# Altium schematic symbol library STMicroelectronics STM32 F1.SchLib: 243 symbols (part 10 of 18)
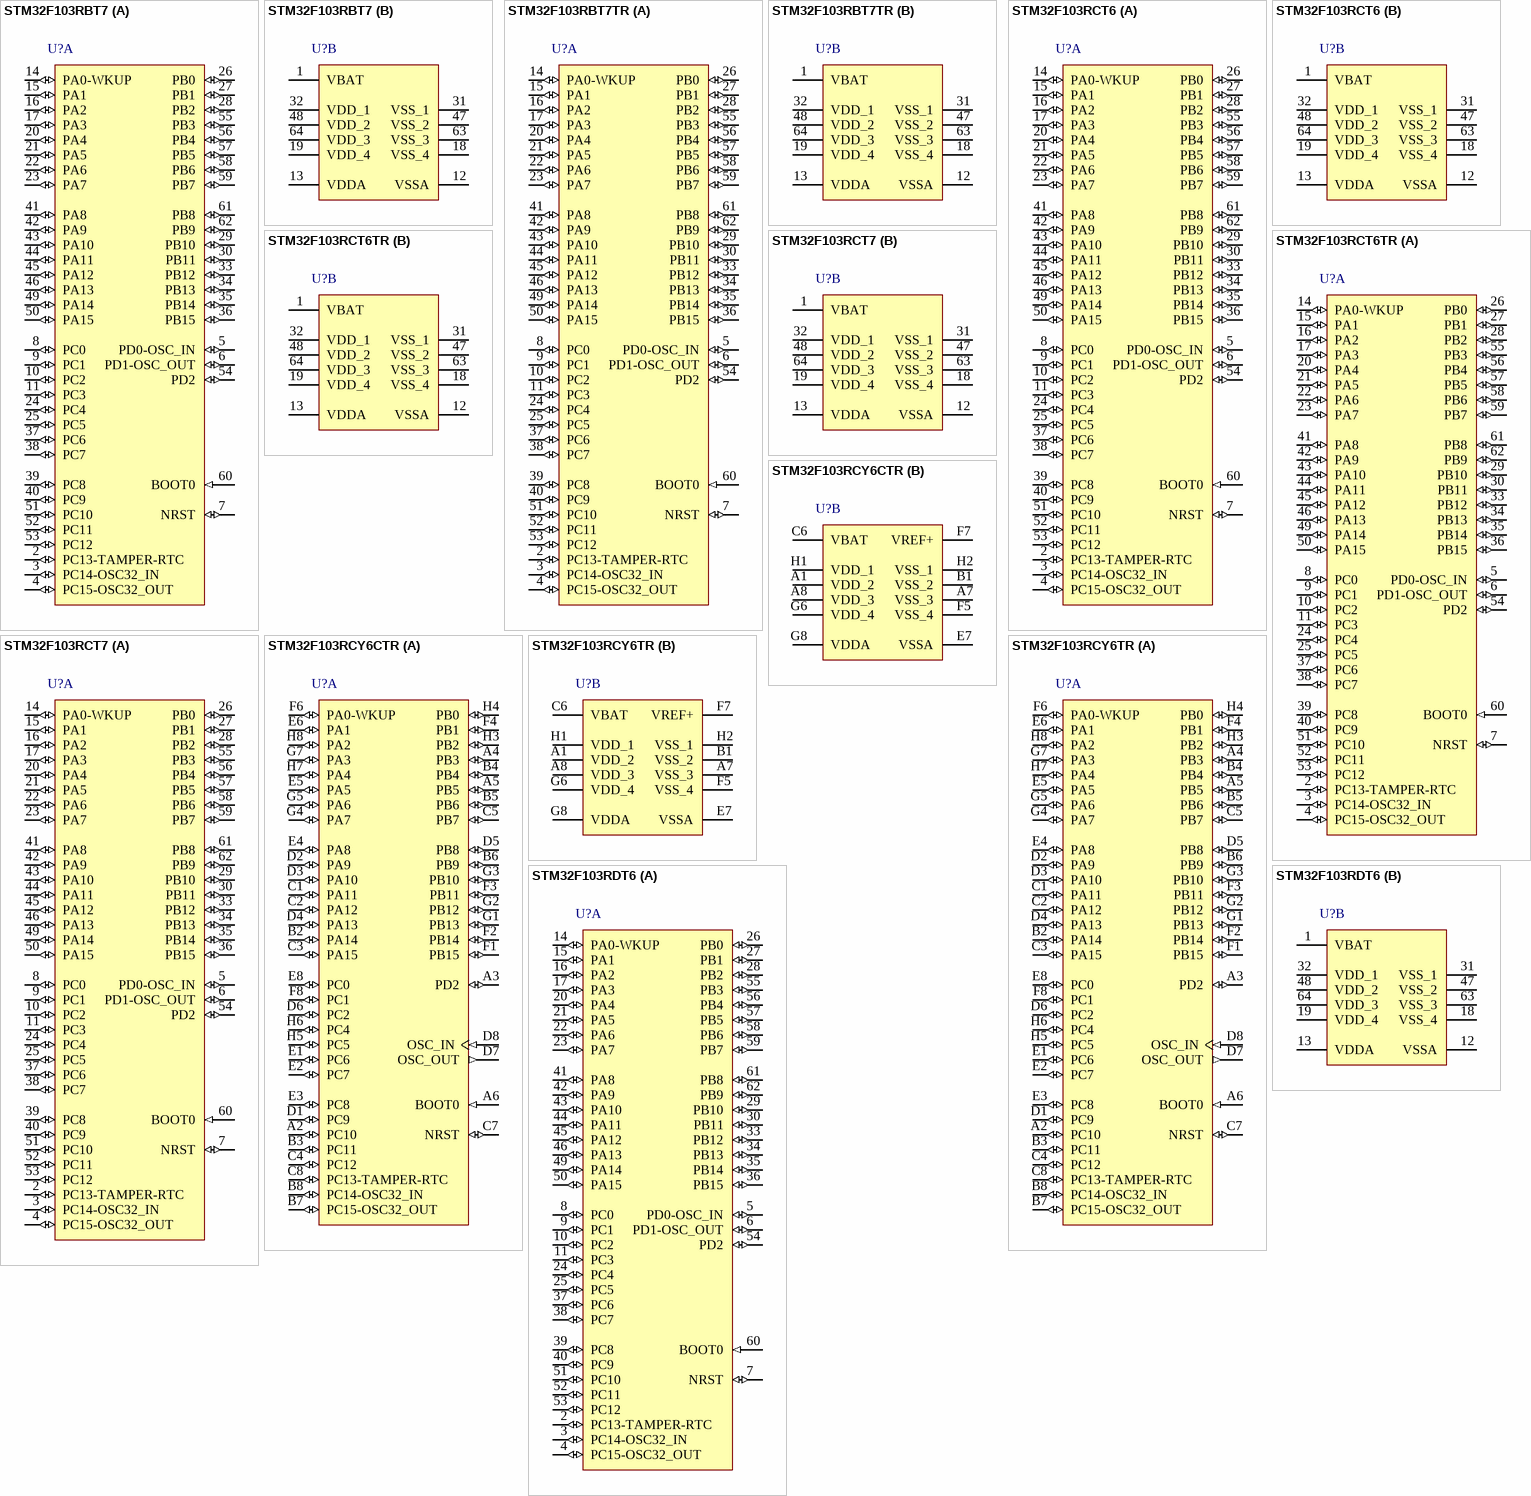
[diagram p51: symbols STM32F103RBT7 to STM32F103RDT6]

## STM32F103RBT7TR
designator U?
ARM Cortex-M3 32-bit MCU, 128 KB Flash, 20 KB Internal RAM, 51 I/Os, 64-pin LQFP, -40 to 105 degC, Tape and Reel
footprint STM-LQFP64_N (Thin QFP, 64-Leads, Body 10x10mm, Pitch 0.5mm, IPC Medium Density)
footprint STM-LQFP64_L (Thin QFP, 64-Leads, Body 10x10mm, Pitch 0.5mm, IPC High Density)
footprint STM-LQFP64_M (Thin QFP, 64-Leads, Body 10x10mm, Pitch 0.5mm, IPC Low Density)
footprint STM-LQFP64_V (Thin QFP, 64-Leads, Body 10x10mm, Pitch 0.5mm, ST Recommended)
part A pins: 2 PC13-TAMPER-RTC (io) "PC13-TAMPER-RTC/PC13/TAMPER-RTC", 3 PC14-OSC32_IN (io) "PC14-OSC32_IN/PC14/OSC32_IN", 4 PC15-OSC32_OUT (io) "PC15-OSC32_OUT/PC15/OSC32_OUT", 5 PD0-OSC_IN (io) "PD0/OSC_IN", 6 PD1-OSC_OUT (io) "PD1/OSC_OUT", 7 NRST (io), 8 PC0 (io) "PC0/ADC12_IN10", 9 PC1 (io) "PC1/ADC12_IN11", 10 PC2 (io) "PC2/ADC12_IN12", 11 PC3 (io) "PC3/ADC12_IN13", 14 PA0-WKUP (io) "PA0-WKUP/PA0/WKUP/USART2_CTS/ADC12_IN0/TIM2_CH1_ETR", 15 PA1 (io) "PA1/USART2_RTS/ADC12_IN1/TIM2_CH2", 16 PA2 (io) "PA2/USART2_TX/ADC12_IN2/TIM2_CH3", 17 PA3 (io) "PA3/USART2_RX/ADC12_IN3/TIM2_CH4", 20 PA4 (io) "PA4/SPI1_NSS/USART2_CK/ADC12_IN4", 21 PA5 (io) "PA5/SPI1_SCK/ADC12_IN5", 22 PA6 (io) "PA6/SPI1_MISO/ADC12_IN6/TIM3_CH1/TIM1_BKIN", 23 PA7 (io) "PA7/SPI1_MOSI/ADC12_IN7/TIM3_CH2/TIM1_CH1N", 24 PC4 (io) "PC4/ADC12_IN14", 25 PC5 (io) "PC5/ADC12_IN15", 26 PB0 (io) "PB0/ADC12_IN8/TIM3_CH3/TIM1_CH2N", 27 PB1 (io) "PB1/ADC12_IN9/TIM3_CH4/TIM1_CH3N", 28 PB2 (io) "PB2/BOOT1", 29 PB10 (io) "PB10/I2C2_SCL/USART3_TX/TIM2_CH3", 30 PB11 (io) "PB11/I2C2_SDA/USART3_RX/TIM2_CH4", 33 PB12 (io) "PB12/SPI2_NSS/I2C2_SMBAl/USART3_CK/TIM1_BKIN", 34 PB13 (io) "PB13/SPI2_SCK/USART3_CTS/TIM1_CH1N", 35 PB14 (io) "PB14/SPI2_MISO/USART3_RTS/TIM1_CH2N", 36 PB15 (io) "PB15/SPI2_MOSI/TIM1_CH3N", 37 PC6 (io) "PC6/TIM3_CH1", 38 PC7 (io) "PC7/TIM3_CH2", 39 PC8 (io) "PC8/TIM3_CH3", 40 PC9 (io) "PC9/TIM3_CH4", 41 PA8 (io) "PA8/USART1_CK/TIM1_CH1/MCO", 42 PA9 (io) "PA9/USART1_TX/TIM1_CH2", 43 PA10 (io) "PA10/USART1_RX/TIM1_CH3", 44 PA11 (io) "PA11/USART1_CTS/CANRX/USBDM/TIM1_CH4", 45 PA12 (io) "PA12/USART1_RTS/CANTX/USBDP/TIM1_ETR", 46 PA13 (io) "PA13/JTMS/SWDIO", 49 PA14 (io) "PA14/JTCK/SWCLK", 50 PA15 (io) "PA15/JTDI/TIM2_CH1_ETR/SPI1_NSS", 51 PC10 (io) "PC10/USART3_TX", 52 PC11 (io) "PC11/USART3_RX", 53 PC12 (io) "PC12/USART3_CK", 54 PD2 (io) "PD2/TIM3_ETR", 55 PB3 (io) "PB3/JTDO/TIM2_CH2/TRACESWO/SPI1_SCK", 56 PB4 (io) "PB4/NJTRST/TIM3_CH1/SPI1_MISO", 57 PB5 (io) "PB5/I2C1_SMBAI/TIM3_CH2/SPI1_MOSI", 58 PB6 (io) "PB6/I2C1_SCL/TIM4_CH1/USART1_TX", 59 PB7 (io) "PB7/I2C1_SDA/TIM4_CH2/USART1_RX", 60 BOOT0 (in), 61 PB8 (io) "PB8/TIM4_CH3/I2C1_SCL/CANRX", 62 PB9 (io) "PB9/TIM4_CH4/I2C1_SDA/CANTX"
part B pins: 1 VBAT (power), 12 VSSA (power), 13 VDDA (power), 18 VSS_4 (power), 19 VDD_4 (power), 31 VSS_1 (power), 32 VDD_1 (power), 47 VSS_2 (power), 48 VDD_2 (power), 63 VSS_3 (power), 64 VDD_3 (power)

## STM32F103RCT6
designator U?
ARM Cortex-M3 32-bit MCU, 256 KB Flash, 48 KB Internal RAM, 51 I/Os, 64-pin LQFP, -40 to 85 degC, Tray
footprint STM-LQFP64_N (Thin QFP, 64-Leads, Body 10x10mm, Pitch 0.5mm, IPC Medium Density)
footprint STM-LQFP64_L (Thin QFP, 64-Leads, Body 10x10mm, Pitch 0.5mm, IPC High Density)
footprint STM-LQFP64_M (Thin QFP, 64-Leads, Body 10x10mm, Pitch 0.5mm, IPC Low Density)
footprint STM-LQFP64_V (Thin QFP, 64-Leads, Body 10x10mm, Pitch 0.5mm, ST Recommended)
part A pins: 2 PC13-TAMPER-RTC (io) "PC13-TAMPER-RTC/PC13/TAMPER-RTC", 3 PC14-OSC32_IN (io) "PC14-OSC32_IN/PC14/OSC32_IN", 4 PC15-OSC32_OUT (io) "PC15-OSC32_OUT/PC15/OSC32_OUT", 5 PD0-OSC_IN (io) "PD0/OSC_IN/CAN_RX", 6 PD1-OSC_OUT (io) "PD1/OSC_OUT/CAN_TX", 7 NRST (io), 8 PC0 (io) "PC0/ADC123_IN10", 9 PC1 (io) "PC1/ADC123_IN11", 10 PC2 (io) "PC2/ADC123_IN12", 11 PC3 (io) "PC3/ADC123_IN13", 14 PA0-WKUP (io) "PA0-WKUP/PA0/WKUP/USART2_CTS/ADC123_IN0/TIM2_CH1_ETR/TIM5_CH1/TIM8_ETR", 15 PA1 (io) "PA1/USART2_RTS/ADC123_IN1/TIM5_CH2/TIM2_CH2", 16 PA2 (io) "PA2/USART2_TX/TIM5_CH3/ADC123_IN2/TIM2_CH3", 17 PA3 (io) "PA3/USART2_RX/TIM5_CH4/ADC123_IN3/TIM2_CH4", 20 PA4 (io) "PA4/SPI1_NSS/USART2_CK/DAC_OUT1/ADC12_IN4", 21 PA5 (io) "PA5/SPI1_SCK/DAC_OUT2/ADC12_IN5", 22 PA6 (io) "PA6/SPI1_MISO/TIM8_BKIN/ADC12_IN6/TIM3_CH1/TIM1_BKIN", 23 PA7 (io) "PA7/SPI1_MOSI/TIM8_CH1N/ADC12_IN7/TIM3_CH2/TIM1_CH1N", 24 PC4 (io) "PC4/ADC12_IN14", 25 PC5 (io) "PC5/ADC12_IN15", 26 PB0 (io) "PB0/ADC12_IN8/TIM3_CH3/TIM8_CH2N/TIM1_CH2N", 27 PB1 (io) "PB1/ADC12_IN9/TIM3_CH4/TIM8_CH3N/TIM1_CH3N", 28 PB2 (io) "PB2/BOOT1", 29 PB10 (io) "PB10/I2C2_SCL/USART3_TX/TIM2_CH3", 30 PB11 (io) "PB11/I2C2_SDA/USART3_RX/TIM2_CH4", 33 PB12 (io) "PB12/SPI2_NSS/I2S2_WS/I2C2_SMBA/USART3_CK/TIM1_BKIN", 34 PB13 (io) "PB13/SPI2_SCK/I2S2_CK/USART3_CTS/TIM1_CH1N", 35 PB14 (io) "PB14/SPI2_MISO/TIM1_CH2N/USART3_RTS", 36 PB15 (io) "PB15/SPI2_MOSI/I2S2_SD/TIM1_CH3N", 37 PC6 (io) "PC6/I2S2_MCK/TIM8_CH1/SDIO_D6/TIM3_CH1", 38 PC7 (io) "PC7/I2S3_MCK/TIM8_CH2/SDIO_D7/TIM3_CH2", 39 PC8 (io) "PC8/TIM8_CH3/SDIO_D0/TIM3_CH3", 40 PC9 (io) "PC9/TIM8_CH4/SDIO_D1/TIM3_CH4", 41 PA8 (io) "PA8/USART1_CK/TIM1_CH1/MCO", 42 PA9 (io) "PA9/USART1_TX/TIM1_CH2", 43 PA10 (io) "PA10/USART1_RX/TIM1_CH3", 44 PA11 (io) "PA11/USART1_CTS/USBDM/CAN_RX/TIM1_CH4", 45 PA12 (io) "PA12/USART1_RTS/USBDP/CAN_TX/TIM1_ETR", 46 PA13 (io) "PA13/JTMS-SWDIO", 49 PA14 (io) "PA14/JTCK-SWCLK", 50 PA15 (io) "PA15/JTDI/SPI3_NSS/I2S3_WS/TIM2_CH1_ETR/SPI1_NSS", 51 PC10 (io) "PC10/UART4_TX/SDIO_D2/USART3_TX", 52 PC11 (io) "PC11/UART4_RX/SDIO_D3/USART3_RX", 53 PC12 (io) "PC12/UART5_TX/SDIO_CK/USART3_CK", 54 PD2 (io) "PD2/TIM3_ETR/UART5_RX/SDIO_CMD", 55 PB3 (io) "PB3/JTDO/SPI3_SCK/I2S3_CK/TRACESWO/TIM2_CH2/SPI1_SCK", 56 PB4 (io) "PB4/NJTRST/SPI3_MISO/TIM3_CH1/SPI1_MISO", 57 PB5 (io) "PB5/I2C1_SMBA/SPI3_MOSI/I2S3_SD/TIM3_CH2/SPI1_MOSI", 58 PB6 (io) "PB6/I2C1_SCL/TIM4_CH1/USART1_TX", 59 PB7 (io) "PB7/I2C1_SDA/TIM4_CH2/USART1_RX", 60 BOOT0 (in), 61 PB8 (io) "PB8/TIM4_CH3/SDIO_D4/I2C1_SCL/CAN_RX", 62 PB9 (io) "PB9/TIM4_CH4/SDIO_D5/I2C1_SDA/CAN_TX"
part B pins: 1 VBAT (power), 12 VSSA (power), 13 VDDA (power), 18 VSS_4 (power), 19 VDD_4 (power), 31 VSS_1 (power), 32 VDD_1 (power), 47 VSS_2 (power), 48 VDD_2 (power), 63 VSS_3 (power), 64 VDD_3 (power)

## STM32F103RCT6TR
designator U?
ARM Cortex-M3 32-bit MCU, 256 KB Flash, 48 KB Internal RAM, 51 I/Os, 64-pin LQFP, -40 to 85 degC, Tape and Reel
footprint STM-LQFP64_N (Thin QFP, 64-Leads, Body 10x10mm, Pitch 0.5mm, IPC Medium Density)
footprint STM-LQFP64_L (Thin QFP, 64-Leads, Body 10x10mm, Pitch 0.5mm, IPC High Density)
footprint STM-LQFP64_M (Thin QFP, 64-Leads, Body 10x10mm, Pitch 0.5mm, IPC Low Density)
footprint STM-LQFP64_V (Thin QFP, 64-Leads, Body 10x10mm, Pitch 0.5mm, ST Recommended)
part A pins: 2 PC13-TAMPER-RTC (io) "PC13-TAMPER-RTC/PC13/TAMPER-RTC", 3 PC14-OSC32_IN (io) "PC14-OSC32_IN/PC14/OSC32_IN", 4 PC15-OSC32_OUT (io) "PC15-OSC32_OUT/PC15/OSC32_OUT", 5 PD0-OSC_IN (io) "PD0/OSC_IN/CAN_RX", 6 PD1-OSC_OUT (io) "PD1/OSC_OUT/CAN_TX", 7 NRST (io), 8 PC0 (io) "PC0/ADC123_IN10", 9 PC1 (io) "PC1/ADC123_IN11", 10 PC2 (io) "PC2/ADC123_IN12", 11 PC3 (io) "PC3/ADC123_IN13", 14 PA0-WKUP (io) "PA0-WKUP/PA0/WKUP/USART2_CTS/ADC123_IN0/TIM2_CH1_ETR/TIM5_CH1/TIM8_ETR", 15 PA1 (io) "PA1/USART2_RTS/ADC123_IN1/TIM5_CH2/TIM2_CH2", 16 PA2 (io) "PA2/USART2_TX/TIM5_CH3/ADC123_IN2/TIM2_CH3", 17 PA3 (io) "PA3/USART2_RX/TIM5_CH4/ADC123_IN3/TIM2_CH4", 20 PA4 (io) "PA4/SPI1_NSS/USART2_CK/DAC_OUT1/ADC12_IN4", 21 PA5 (io) "PA5/SPI1_SCK/DAC_OUT2/ADC12_IN5", 22 PA6 (io) "PA6/SPI1_MISO/TIM8_BKIN/ADC12_IN6/TIM3_CH1/TIM1_BKIN", 23 PA7 (io) "PA7/SPI1_MOSI/TIM8_CH1N/ADC12_IN7/TIM3_CH2/TIM1_CH1N", 24 PC4 (io) "PC4/ADC12_IN14", 25 PC5 (io) "PC5/ADC12_IN15", 26 PB0 (io) "PB0/ADC12_IN8/TIM3_CH3/TIM8_CH2N/TIM1_CH2N", 27 PB1 (io) "PB1/ADC12_IN9/TIM3_CH4/TIM8_CH3N/TIM1_CH3N", 28 PB2 (io) "PB2/BOOT1", 29 PB10 (io) "PB10/I2C2_SCL/USART3_TX/TIM2_CH3", 30 PB11 (io) "PB11/I2C2_SDA/USART3_RX/TIM2_CH4", 33 PB12 (io) "PB12/SPI2_NSS/I2S2_WS/I2C2_SMBA/USART3_CK/TIM1_BKIN", 34 PB13 (io) "PB13/SPI2_SCK/I2S2_CK/USART3_CTS/TIM1_CH1N", 35 PB14 (io) "PB14/SPI2_MISO/TIM1_CH2N/USART3_RTS", 36 PB15 (io) "PB15/SPI2_MOSI/I2S2_SD/TIM1_CH3N", 37 PC6 (io) "PC6/I2S2_MCK/TIM8_CH1/SDIO_D6/TIM3_CH1", 38 PC7 (io) "PC7/I2S3_MCK/TIM8_CH2/SDIO_D7/TIM3_CH2", 39 PC8 (io) "PC8/TIM8_CH3/SDIO_D0/TIM3_CH3", 40 PC9 (io) "PC9/TIM8_CH4/SDIO_D1/TIM3_CH4", 41 PA8 (io) "PA8/USART1_CK/TIM1_CH1/MCO", 42 PA9 (io) "PA9/USART1_TX/TIM1_CH2", 43 PA10 (io) "PA10/USART1_RX/TIM1_CH3", 44 PA11 (io) "PA11/USART1_CTS/USBDM/CAN_RX/TIM1_CH4", 45 PA12 (io) "PA12/USART1_RTS/USBDP/CAN_TX/TIM1_ETR", 46 PA13 (io) "PA13/JTMS-SWDIO", 49 PA14 (io) "PA14/JTCK-SWCLK", 50 PA15 (io) "PA15/JTDI/SPI3_NSS/I2S3_WS/TIM2_CH1_ETR/SPI1_NSS", 51 PC10 (io) "PC10/UART4_TX/SDIO_D2/USART3_TX", 52 PC11 (io) "PC11/UART4_RX/SDIO_D3/USART3_RX", 53 PC12 (io) "PC12/UART5_TX/SDIO_CK/USART3_CK", 54 PD2 (io) "PD2/TIM3_ETR/UART5_RX/SDIO_CMD", 55 PB3 (io) "PB3/JTDO/SPI3_SCK/I2S3_CK/TRACESWO/TIM2_CH2/SPI1_SCK", 56 PB4 (io) "PB4/NJTRST/SPI3_MISO/TIM3_CH1/SPI1_MISO", 57 PB5 (io) "PB5/I2C1_SMBA/SPI3_MOSI/I2S3_SD/TIM3_CH2/SPI1_MOSI", 58 PB6 (io) "PB6/I2C1_SCL/TIM4_CH1/USART1_TX", 59 PB7 (io) "PB7/I2C1_SDA/TIM4_CH2/USART1_RX", 60 BOOT0 (in), 61 PB8 (io) "PB8/TIM4_CH3/SDIO_D4/I2C1_SCL/CAN_RX", 62 PB9 (io) "PB9/TIM4_CH4/SDIO_D5/I2C1_SDA/CAN_TX"
part B pins: 1 VBAT (power), 12 VSSA (power), 13 VDDA (power), 18 VSS_4 (power), 19 VDD_4 (power), 31 VSS_1 (power), 32 VDD_1 (power), 47 VSS_2 (power), 48 VDD_2 (power), 63 VSS_3 (power), 64 VDD_3 (power)

## STM32F103RCT7
designator U?
ARM Cortex-M3 32-bit MCU, 256 KB Flash, 48 KB Internal RAM, 51 I/Os, 64-pin LQFP, -40 to 105 degC, Tray
footprint STM-LQFP64_N (Thin QFP, 64-Leads, Body 10x10mm, Pitch 0.5mm, IPC Medium Density)
footprint STM-LQFP64_L (Thin QFP, 64-Leads, Body 10x10mm, Pitch 0.5mm, IPC High Density)
footprint STM-LQFP64_M (Thin QFP, 64-Leads, Body 10x10mm, Pitch 0.5mm, IPC Low Density)
footprint STM-LQFP64_V (Thin QFP, 64-Leads, Body 10x10mm, Pitch 0.5mm, ST Recommended)
part A pins: 2 PC13-TAMPER-RTC (io) "PC13-TAMPER-RTC/PC13/TAMPER-RTC", 3 PC14-OSC32_IN (io) "PC14-OSC32_IN/PC14/OSC32_IN", 4 PC15-OSC32_OUT (io) "PC15-OSC32_OUT/PC15/OSC32_OUT", 5 PD0-OSC_IN (io) "PD0/OSC_IN/CAN_RX", 6 PD1-OSC_OUT (io) "PD1/OSC_OUT/CAN_TX", 7 NRST (io), 8 PC0 (io) "PC0/ADC123_IN10", 9 PC1 (io) "PC1/ADC123_IN11", 10 PC2 (io) "PC2/ADC123_IN12", 11 PC3 (io) "PC3/ADC123_IN13", 14 PA0-WKUP (io) "PA0-WKUP/PA0/WKUP/USART2_CTS/ADC123_IN0/TIM2_CH1_ETR/TIM5_CH1/TIM8_ETR", 15 PA1 (io) "PA1/USART2_RTS/ADC123_IN1/TIM5_CH2/TIM2_CH2", 16 PA2 (io) "PA2/USART2_TX/TIM5_CH3/ADC123_IN2/TIM2_CH3", 17 PA3 (io) "PA3/USART2_RX/TIM5_CH4/ADC123_IN3/TIM2_CH4", 20 PA4 (io) "PA4/SPI1_NSS/USART2_CK/DAC_OUT1/ADC12_IN4", 21 PA5 (io) "PA5/SPI1_SCK/DAC_OUT2/ADC12_IN5", 22 PA6 (io) "PA6/SPI1_MISO/TIM8_BKIN/ADC12_IN6/TIM3_CH1/TIM1_BKIN", 23 PA7 (io) "PA7/SPI1_MOSI/TIM8_CH1N/ADC12_IN7/TIM3_CH2/TIM1_CH1N", 24 PC4 (io) "PC4/ADC12_IN14", 25 PC5 (io) "PC5/ADC12_IN15", 26 PB0 (io) "PB0/ADC12_IN8/TIM3_CH3/TIM8_CH2N/TIM1_CH2N", 27 PB1 (io) "PB1/ADC12_IN9/TIM3_CH4/TIM8_CH3N/TIM1_CH3N", 28 PB2 (io) "PB2/BOOT1", 29 PB10 (io) "PB10/I2C2_SCL/USART3_TX/TIM2_CH3", 30 PB11 (io) "PB11/I2C2_SDA/USART3_RX/TIM2_CH4", 33 PB12 (io) "PB12/SPI2_NSS/I2S2_WS/I2C2_SMBA/USART3_CK/TIM1_BKIN", 34 PB13 (io) "PB13/SPI2_SCK/I2S2_CK/USART3_CTS/TIM1_CH1N", 35 PB14 (io) "PB14/SPI2_MISO/TIM1_CH2N/USART3_RTS", 36 PB15 (io) "PB15/SPI2_MOSI/I2S2_SD/TIM1_CH3N", 37 PC6 (io) "PC6/I2S2_MCK/TIM8_CH1/SDIO_D6/TIM3_CH1", 38 PC7 (io) "PC7/I2S3_MCK/TIM8_CH2/SDIO_D7/TIM3_CH2", 39 PC8 (io) "PC8/TIM8_CH3/SDIO_D0/TIM3_CH3", 40 PC9 (io) "PC9/TIM8_CH4/SDIO_D1/TIM3_CH4", 41 PA8 (io) "PA8/USART1_CK/TIM1_CH1/MCO", 42 PA9 (io) "PA9/USART1_TX/TIM1_CH2", 43 PA10 (io) "PA10/USART1_RX/TIM1_CH3", 44 PA11 (io) "PA11/USART1_CTS/USBDM/CAN_RX/TIM1_CH4", 45 PA12 (io) "PA12/USART1_RTS/USBDP/CAN_TX/TIM1_ETR", 46 PA13 (io) "PA13/JTMS-SWDIO", 49 PA14 (io) "PA14/JTCK-SWCLK", 50 PA15 (io) "PA15/JTDI/SPI3_NSS/I2S3_WS/TIM2_CH1_ETR/SPI1_NSS", 51 PC10 (io) "PC10/UART4_TX/SDIO_D2/USART3_TX", 52 PC11 (io) "PC11/UART4_RX/SDIO_D3/USART3_RX", 53 PC12 (io) "PC12/UART5_TX/SDIO_CK/USART3_CK", 54 PD2 (io) "PD2/TIM3_ETR/UART5_RX/SDIO_CMD", 55 PB3 (io) "PB3/JTDO/SPI3_SCK/I2S3_CK/TRACESWO/TIM2_CH2/SPI1_SCK", 56 PB4 (io) "PB4/NJTRST/SPI3_MISO/TIM3_CH1/SPI1_MISO", 57 PB5 (io) "PB5/I2C1_SMBA/SPI3_MOSI/I2S3_SD/TIM3_CH2/SPI1_MOSI", 58 PB6 (io) "PB6/I2C1_SCL/TIM4_CH1/USART1_TX", 59 PB7 (io) "PB7/I2C1_SDA/TIM4_CH2/USART1_RX", 60 BOOT0 (in), 61 PB8 (io) "PB8/TIM4_CH3/SDIO_D4/I2C1_SCL/CAN_RX", 62 PB9 (io) "PB9/TIM4_CH4/SDIO_D5/I2C1_SDA/CAN_TX"
part B pins: 1 VBAT (power), 12 VSSA (power), 13 VDDA (power), 18 VSS_4 (power), 19 VDD_4 (power), 31 VSS_1 (power), 32 VDD_1 (power), 47 VSS_2 (power), 48 VDD_2 (power), 63 VSS_3 (power), 64 VDD_3 (power)

## STM32F103RCY6CTR
designator U?
ARM Cortex-M3 32-bit MCU, 256 KB Flash, 48 KB Internal RAM, 51 I/Os, 64-pin WLCSP, -40 to 85 degC, Tape and Reel
footprint STM-WLCSP64 (BGA, 64-Balls, Body 4.47x4.4mm, Pitch 0.5mm)
part A pins: A2 PC10 (io) "PC10/UART4_TX/SDIO_D2/USART3_TX", A3 PD2 (io) "PD2/TIM3_ETR/UART5_RX/SDIO_CMD", A4 PB3 (io) "PB3/JTDO/SPI3_SCK/I2S3_CK/TRACESWO/TIM2_CH2/SPI1_SCK", A5 PB5 (io) "PB5/I2C1_SMBA/SPI3_MOSI/I2S3_SD/TIM3_CH2/SPI1_MOSI", A6 BOOT0 (in), B2 PA14 (io) "PA14/JTCK-SWCLK", B3 PC11 (io) "PC11/UART4_RX/SDIO_D3/USART3_RX", B4 PB4 (io) "PB4/NJTRST/SPI3_MISO/TIM3_CH1/SPI1_MISO", B5 PB6 (io) "PB6/I2C1_SCL/TIM4_CH1/USART1_TX", B6 PB9 (io) "PB9/TIM4_CH4/SDIO_D5/I2C1_SDA/CAN_TX", B7 PC15-OSC32_OUT (io) "PC15-OSC32_OUT/PC15/OSC32_OUT", B8 PC14-OSC32_IN (io) "PC14-OSC32_IN/PC14/OSC32_IN", C1 PA11 (io) "PA11/USART1_CTS/USBDM/CAN_RX/TIM1_CH4", C2 PA12 (io) "PA12/USART1_RTS/USBDP/CAN_TX/TIM1_ETR", C3 PA15 (io) "PA15/JTDI/SPI3_NSS/I2S3_WS/TIM2_CH1_ETR/SPI1_NSS", C4 PC12 (io) "PC12/UART5_TX/SDIO_CK/USART3_CK", C5 PB7 (io) "PB7/I2C1_SDA/FSMC_NADV/TIM4_CH2/USART1_RX", C7 NRST (io), C8 PC13-TAMPER-RTC (io) "PC13-TAMPER-RTC/PC13/TAMPER-RTC", D1 PC9 (io) "PC9/TIM8_CH4/SDIO_D1/TIM3_CH4", D2 PA9 (io) "PA9/USART1_TX/TIM1_CH2", D3 PA10 (io) "PA10/USART1_RX/TIM1_CH3", D4 PA13 (io) "PA13/JTMS-SWDIO", D5 PB8 (io) "PB8/TIM4_CH3/SDIO_D4/I2C1_SCL/CAN_RX", D6 PC2 (io) "PC2/ADC123_IN12", D7 OSC_OUT (out) "PD1/OSC_OUT/FSMC_D3/CAN_TX", D8 OSC_IN (in) "PD0/OSC_IN/FSMC_D2/CAN_RX", E1 PC6 (io) "PC6/I2S2_MCK/TIM8_CH1/SDIO_D6/TIM3_CH1", E2 PC7 (io) "PC7/I2S3_MCK/TIM8_CH2/SDIO_D7/TIM3_CH2", E3 PC8 (io) "PC8/TIM8_CH3/SDIO_D0/TIM3_CH3", E4 PA8 (io) "PA8/USART1_CK/TIM1_CH1/MCO", E5 PA5 (io) "PA5/SPI1_SCK/DAC_OUT2/ADC12_IN5", E6 PA1 (io) "PA1/USART2_RTS/ADC123_IN1/TIM5_CH2/TIM2_CH2", E8 PC0 (io) "PC0/ADC123_IN10", F1 PB15 (io) "PB15/SPI2_MOSI/I2S2_SD/TIM1_CH3N", F2 PB14 (io) "PB14/SPI2_MISO/TIM1_CH2N/USART3_RTS", F3 PB11 (io) "PB11/I2C2_SDA/USART3_RX/TIM2_CH4", F4 PB1 (io) "PB1/ADC12_IN9/TIM3_CH4/TIM8_CH3N/TIM1_CH3N", F6 PA0-WKUP (io) "PA0-WKUP/PA0/WKUP/USART2_CTS/ADC123_IN0/TIM2_CH1_ETR/TIM5_CH1/TIM8_ETR", F8 PC1 (io) "PC1/ADC123_IN11", G1 PB13 (io) "PB13/SPI2_SCK/I2S2_CK/USART3_CTS/TIM1_CH1N", G2 PB12 (io) "PB12/SPI2_NSS/I2S2_WS/I2C2_SMBA/USART3_CK/TIM1_BKIN", G3 PB10 (io) "PB10/I2C2_SCL/USART3_TX/TIM2_CH3", G4 PA7 (io) "PA7/SPI1_MOSI/TIM8_CH1N/ADC12_IN7/TIM3_CH2/TIM1_CH1N", G5 PA6 (io) "PA6/SPI1_MISO/TIM8_BKIN/ADC12_IN6/TIM3_CH1/TIM1_BKIN", G7 PA3 (io) "PA3/USART2_RX/TIM5_CH4/ADC123_IN3/TIM2_CH4", H3 PB2 (io) "PB2/BOOT1", H4 PB0 (io) "PB0/ADC12_IN8/TIM3_CH3/TIM8_CH2N/TIM1_CH2N", H5 PC5 (io) "PC5/ADC12_IN15", H6 PC4 (io) "PC4/ADC12_IN14", H7 PA4 (io) "PA4/SPI1_NSS/USART2_CK/DAC_OUT1/ADC12_IN4", H8 PA2 (io) "PA2/USART2_TX/TIM5_CH3/ADC123_IN2/TIM2_CH3"
part B pins: A1 VDD_2 (power), A7 VSS_3 (power), A8 VDD_3 (power), B1 VSS_2 (power), C6 VBAT (power), E7 VSSA (power), F5 VSS_4 (power), F7 VREF+ (power), G6 VDD_4 (power), G8 VDDA (power), H1 VDD_1 (power), H2 VSS_1 (power)

## STM32F103RCY6TR
designator U?
ARM Cortex-M3 32-bit MCU, 256 KB Flash, 48 KB Internal RAM, 51 I/Os, 64-pin WLCSP, -40 to 85 degC, Tape and Reel
footprint STM-WLCSP64 (BGA, 64-Balls, Body 4.47x4.4mm, Pitch 0.5mm)
part A pins: A2 PC10 (io) "PC10/UART4_TX/SDIO_D2/USART3_TX", A3 PD2 (io) "PD2/TIM3_ETR/UART5_RX/SDIO_CMD", A4 PB3 (io) "PB3/JTDO/SPI3_SCK/I2S3_CK/TRACESWO/TIM2_CH2/SPI1_SCK", A5 PB5 (io) "PB5/I2C1_SMBA/SPI3_MOSI/I2S3_SD/TIM3_CH2/SPI1_MOSI", A6 BOOT0 (in), B2 PA14 (io) "PA14/JTCK-SWCLK", B3 PC11 (io) "PC11/UART4_RX/SDIO_D3/USART3_RX", B4 PB4 (io) "PB4/NJTRST/SPI3_MISO/TIM3_CH1/SPI1_MISO", B5 PB6 (io) "PB6/I2C1_SCL/TIM4_CH1/USART1_TX", B6 PB9 (io) "PB9/TIM4_CH4/SDIO_D5/I2C1_SDA/CAN_TX", B7 PC15-OSC32_OUT (io) "PC15-OSC32_OUT/PC15/OSC32_OUT", B8 PC14-OSC32_IN (io) "PC14-OSC32_IN/PC14/OSC32_IN", C1 PA11 (io) "PA11/USART1_CTS/USBDM/CAN_RX/TIM1_CH4", C2 PA12 (io) "PA12/USART1_RTS/USBDP/CAN_TX/TIM1_ETR", C3 PA15 (io) "PA15/JTDI/SPI3_NSS/I2S3_WS/TIM2_CH1_ETR/SPI1_NSS", C4 PC12 (io) "PC12/UART5_TX/SDIO_CK/USART3_CK", C5 PB7 (io) "PB7/I2C1_SDA/FSMC_NADV/TIM4_CH2/USART1_RX", C7 NRST (io), C8 PC13-TAMPER-RTC (io) "PC13-TAMPER-RTC/PC13/TAMPER-RTC", D1 PC9 (io) "PC9/TIM8_CH4/SDIO_D1/TIM3_CH4", D2 PA9 (io) "PA9/USART1_TX/TIM1_CH2", D3 PA10 (io) "PA10/USART1_RX/TIM1_CH3", D4 PA13 (io) "PA13/JTMS-SWDIO", D5 PB8 (io) "PB8/TIM4_CH3/SDIO_D4/I2C1_SCL/CAN_RX", D6 PC2 (io) "PC2/ADC123_IN12", D7 OSC_OUT (out) "PD1/OSC_OUT/FSMC_D3/CAN_TX", D8 OSC_IN (in) "PD0/OSC_IN/FSMC_D2/CAN_RX", E1 PC6 (io) "PC6/I2S2_MCK/TIM8_CH1/SDIO_D6/TIM3_CH1", E2 PC7 (io) "PC7/I2S3_MCK/TIM8_CH2/SDIO_D7/TIM3_CH2", E3 PC8 (io) "PC8/TIM8_CH3/SDIO_D0/TIM3_CH3", E4 PA8 (io) "PA8/USART1_CK/TIM1_CH1/MCO", E5 PA5 (io) "PA5/SPI1_SCK/DAC_OUT2/ADC12_IN5", E6 PA1 (io) "PA1/USART2_RTS/ADC123_IN1/TIM5_CH2/TIM2_CH2", E8 PC0 (io) "PC0/ADC123_IN10", F1 PB15 (io) "PB15/SPI2_MOSI/I2S2_SD/TIM1_CH3N", F2 PB14 (io) "PB14/SPI2_MISO/TIM1_CH2N/USART3_RTS", F3 PB11 (io) "PB11/I2C2_SDA/USART3_RX/TIM2_CH4", F4 PB1 (io) "PB1/ADC12_IN9/TIM3_CH4/TIM8_CH3N/TIM1_CH3N", F6 PA0-WKUP (io) "PA0-WKUP/PA0/WKUP/USART2_CTS/ADC123_IN0/TIM2_CH1_ETR/TIM5_CH1/TIM8_ETR", F8 PC1 (io) "PC1/ADC123_IN11", G1 PB13 (io) "PB13/SPI2_SCK/I2S2_CK/USART3_CTS/TIM1_CH1N", G2 PB12 (io) "PB12/SPI2_NSS/I2S2_WS/I2C2_SMBA/USART3_CK/TIM1_BKIN", G3 PB10 (io) "PB10/I2C2_SCL/USART3_TX/TIM2_CH3", G4 PA7 (io) "PA7/SPI1_MOSI/TIM8_CH1N/ADC12_IN7/TIM3_CH2/TIM1_CH1N", G5 PA6 (io) "PA6/SPI1_MISO/TIM8_BKIN/ADC12_IN6/TIM3_CH1/TIM1_BKIN", G7 PA3 (io) "PA3/USART2_RX/TIM5_CH4/ADC123_IN3/TIM2_CH4", H3 PB2 (io) "PB2/BOOT1", H4 PB0 (io) "PB0/ADC12_IN8/TIM3_CH3/TIM8_CH2N/TIM1_CH2N", H5 PC5 (io) "PC5/ADC12_IN15", H6 PC4 (io) "PC4/ADC12_IN14", H7 PA4 (io) "PA4/SPI1_NSS/USART2_CK/DAC_OUT1/ADC12_IN4", H8 PA2 (io) "PA2/USART2_TX/TIM5_CH3/ADC123_IN2/TIM2_CH3"
part B pins: A1 VDD_2 (power), A7 VSS_3 (power), A8 VDD_3 (power), B1 VSS_2 (power), C6 VBAT (power), E7 VSSA (power), F5 VSS_4 (power), F7 VREF+ (power), G6 VDD_4 (power), G8 VDDA (power), H1 VDD_1 (power), H2 VSS_1 (power)

## STM32F103RDT6
designator U?
ARM Cortex-M3 32-bit MCU, 384 KB Flash, 64 KB Internal RAM, 51 I/Os, 64-pin LQFP, -40 to 85 degC, Tray
footprint STM-LQFP64_N (Thin QFP, 64-Leads, Body 10x10mm, Pitch 0.5mm, IPC Medium Density)
footprint STM-LQFP64_L (Thin QFP, 64-Leads, Body 10x10mm, Pitch 0.5mm, IPC High Density)
footprint STM-LQFP64_M (Thin QFP, 64-Leads, Body 10x10mm, Pitch 0.5mm, IPC Low Density)
footprint STM-LQFP64_V (Thin QFP, 64-Leads, Body 10x10mm, Pitch 0.5mm, ST Recommended)
part A pins: 2 PC13-TAMPER-RTC (io) "PC13-TAMPER-RTC/PC13/TAMPER-RTC", 3 PC14-OSC32_IN (io) "PC14-OSC32_IN/PC14/OSC32_IN", 4 PC15-OSC32_OUT (io) "PC15-OSC32_OUT/PC15/OSC32_OUT", 5 PD0-OSC_IN (io) "PD0/OSC_IN/CAN_RX", 6 PD1-OSC_OUT (io) "PD1/OSC_OUT/CAN_TX", 7 NRST (io), 8 PC0 (io) "PC0/ADC123_IN10", 9 PC1 (io) "PC1/ADC123_IN11", 10 PC2 (io) "PC2/ADC123_IN12", 11 PC3 (io) "PC3/ADC123_IN13", 14 PA0-WKUP (io) "PA0-WKUP/PA0/WKUP/USART2_CTS/ADC123_IN0/TIM2_CH1_ETR/TIM5_CH1/TIM8_ETR", 15 PA1 (io) "PA1/USART2_RTS/ADC123_IN1/TIM5_CH2/TIM2_CH2", 16 PA2 (io) "PA2/USART2_TX/TIM5_CH3/ADC123_IN2/TIM2_CH3", 17 PA3 (io) "PA3/USART2_RX/TIM5_CH4/ADC123_IN3/TIM2_CH4", 20 PA4 (io) "PA4/SPI1_NSS/USART2_CK/DAC_OUT1/ADC12_IN4", 21 PA5 (io) "PA5/SPI1_SCK/DAC_OUT2/ADC12_IN5", 22 PA6 (io) "PA6/SPI1_MISO/TIM8_BKIN/ADC12_IN6/TIM3_CH1/TIM1_BKIN", 23 PA7 (io) "PA7/SPI1_MOSI/TIM8_CH1N/ADC12_IN7/TIM3_CH2/TIM1_CH1N", 24 PC4 (io) "PC4/ADC12_IN14", 25 PC5 (io) "PC5/ADC12_IN15", 26 PB0 (io) "PB0/ADC12_IN8/TIM3_CH3/TIM8_CH2N/TIM1_CH2N", 27 PB1 (io) "PB1/ADC12_IN9/TIM3_CH4/TIM8_CH3N/TIM1_CH3N", 28 PB2 (io) "PB2/BOOT1", 29 PB10 (io) "PB10/I2C2_SCL/USART3_TX/TIM2_CH3", 30 PB11 (io) "PB11/I2C2_SDA/USART3_RX/TIM2_CH4", 33 PB12 (io) "PB12/SPI2_NSS/I2S2_WS/I2C2_SMBA/USART3_CK/TIM1_BKIN", 34 PB13 (io) "PB13/SPI2_SCK/I2S2_CK/USART3_CTS/TIM1_CH1N", 35 PB14 (io) "PB14/SPI2_MISO/TIM1_CH2N/USART3_RTS", 36 PB15 (io) "PB15/SPI2_MOSI/I2S2_SD/TIM1_CH3N", 37 PC6 (io) "PC6/I2S2_MCK/TIM8_CH1/SDIO_D6/TIM3_CH1", 38 PC7 (io) "PC7/I2S3_MCK/TIM8_CH2/SDIO_D7/TIM3_CH2", 39 PC8 (io) "PC8/TIM8_CH3/SDIO_D0/TIM3_CH3", 40 PC9 (io) "PC9/TIM8_CH4/SDIO_D1/TIM3_CH4", 41 PA8 (io) "PA8/USART1_CK/TIM1_CH1/MCO", 42 PA9 (io) "PA9/USART1_TX/TIM1_CH2", 43 PA10 (io) "PA10/USART1_RX/TIM1_CH3", 44 PA11 (io) "PA11/USART1_CTS/USBDM/CAN_RX/TIM1_CH4", 45 PA12 (io) "PA12/USART1_RTS/USBDP/CAN_TX/TIM1_ETR", 46 PA13 (io) "PA13/JTMS-SWDIO", 49 PA14 (io) "PA14/JTCK-SWCLK", 50 PA15 (io) "PA15/JTDI/SPI3_NSS/I2S3_WS/TIM2_CH1_ETR/SPI1_NSS", 51 PC10 (io) "PC10/UART4_TX/SDIO_D2/USART3_TX", 52 PC11 (io) "PC11/UART4_RX/SDIO_D3/USART3_RX", 53 PC12 (io) "PC12/UART5_TX/SDIO_CK/USART3_CK", 54 PD2 (io) "PD2/TIM3_ETR/UART5_RX/SDIO_CMD", 55 PB3 (io) "PB3/JTDO/SPI3_SCK/I2S3_CK/TRACESWO/TIM2_CH2/SPI1_SCK", 56 PB4 (io) "PB4/NJTRST/SPI3_MISO/TIM3_CH1/SPI1_MISO", 57 PB5 (io) "PB5/I2C1_SMBA/SPI3_MOSI/I2S3_SD/TIM3_CH2/SPI1_MOSI", 58 PB6 (io) "PB6/I2C1_SCL/TIM4_CH1/USART1_TX", 59 PB7 (io) "PB7/I2C1_SDA/TIM4_CH2/USART1_RX", 60 BOOT0 (in), 61 PB8 (io) "PB8/TIM4_CH3/SDIO_D4/I2C1_SCL/CAN_RX", 62 PB9 (io) "PB9/TIM4_CH4/SDIO_D5/I2C1_SDA/CAN_TX"
part B pins: 1 VBAT (power), 12 VSSA (power), 13 VDDA (power), 18 VSS_4 (power), 19 VDD_4 (power), 31 VSS_1 (power), 32 VDD_1 (power), 47 VSS_2 (power), 48 VDD_2 (power), 63 VSS_3 (power), 64 VDD_3 (power)

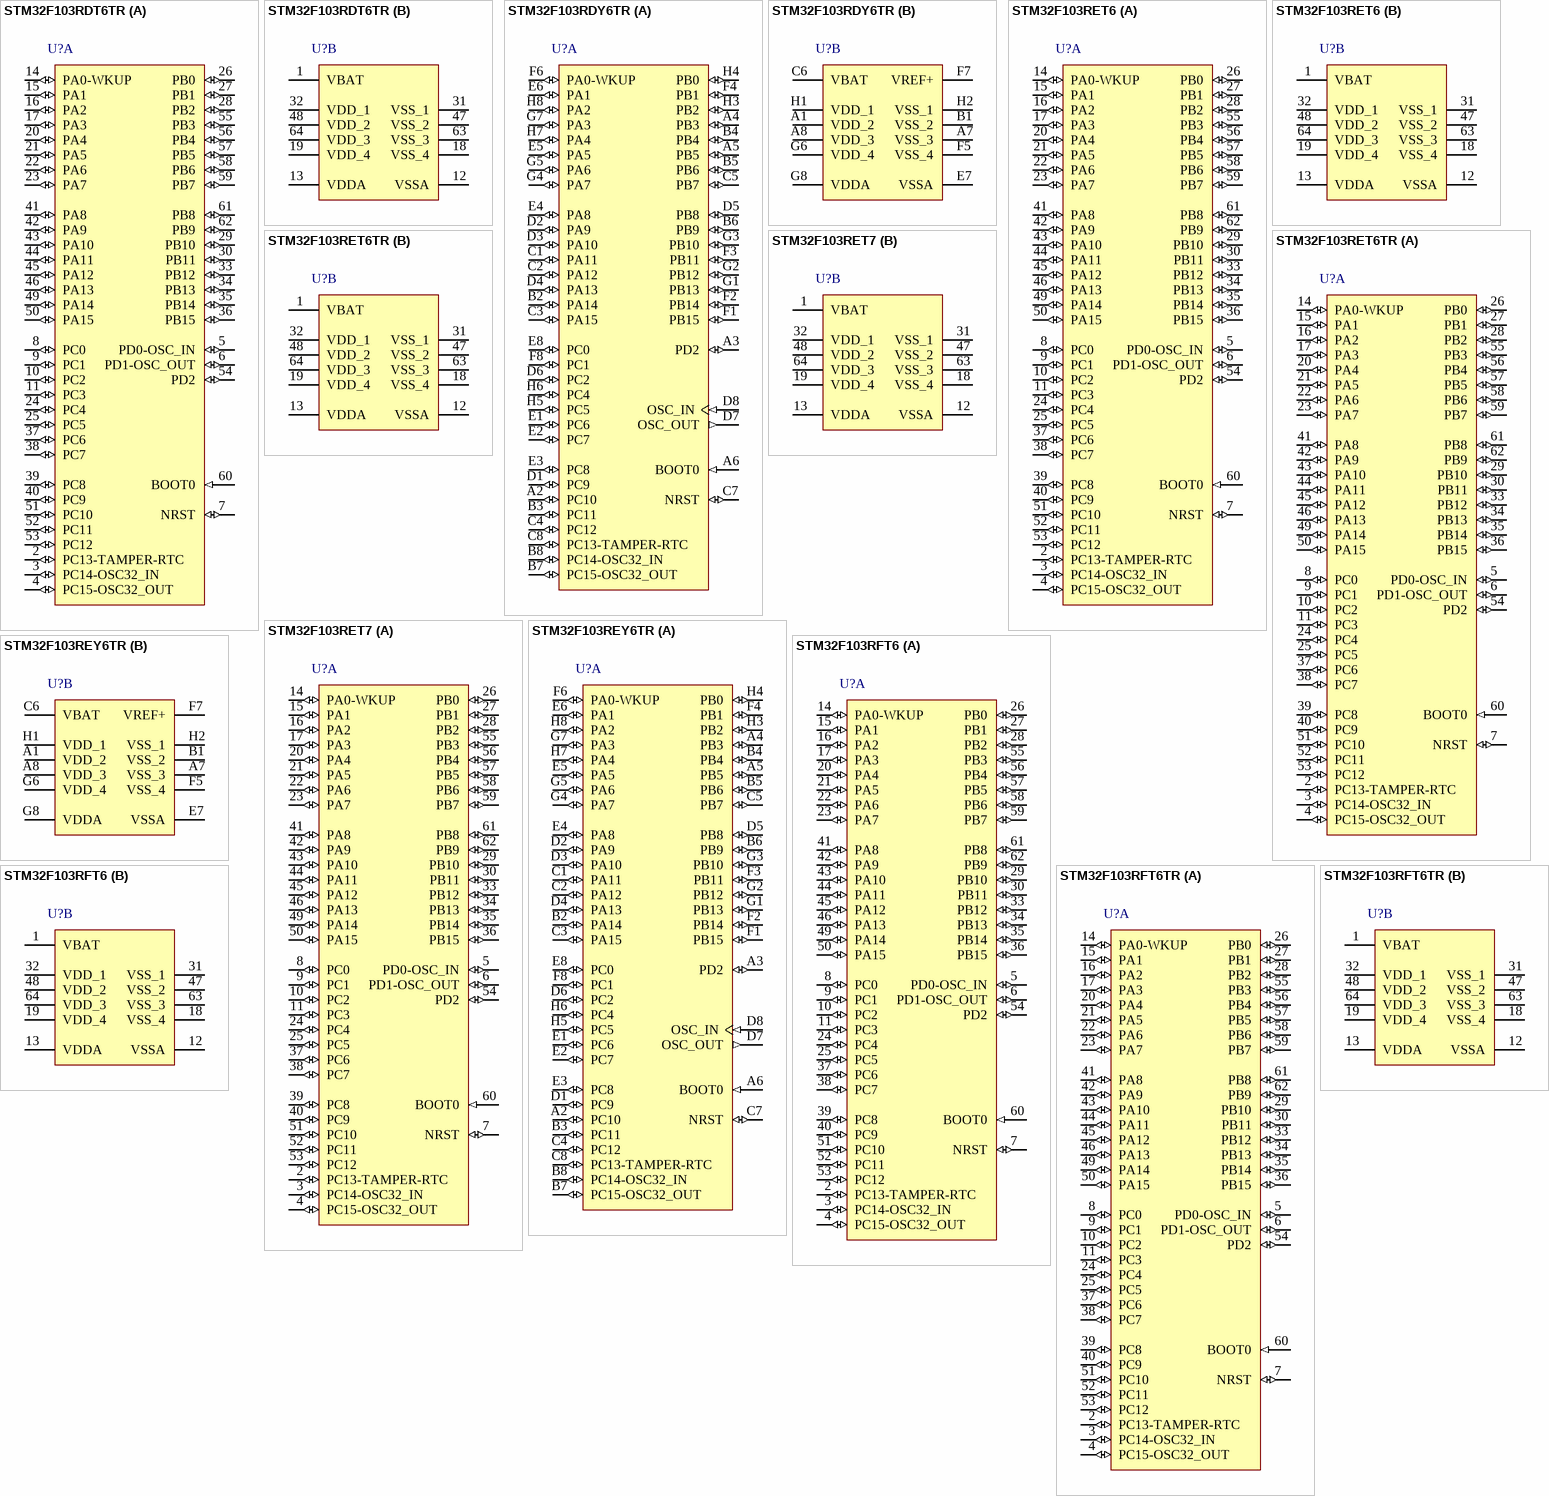
[diagram p22: symbols STM32F103RDT6TR to STM32F103RFT6TR]

## STM32F103RDT6TR
designator U?
ARM Cortex-M3 32-bit MCU, 384 KB Flash, 64 KB Internal RAM, 51 I/Os, 64-pin LQFP, -40 to 85 degC, Tape and Reel
footprint STM-LQFP64_N (Thin QFP, 64-Leads, Body 10x10mm, Pitch 0.5mm, IPC Medium Density)
footprint STM-LQFP64_L (Thin QFP, 64-Leads, Body 10x10mm, Pitch 0.5mm, IPC High Density)
footprint STM-LQFP64_M (Thin QFP, 64-Leads, Body 10x10mm, Pitch 0.5mm, IPC Low Density)
footprint STM-LQFP64_V (Thin QFP, 64-Leads, Body 10x10mm, Pitch 0.5mm, ST Recommended)
part A pins: 2 PC13-TAMPER-RTC (io) "PC13-TAMPER-RTC/PC13/TAMPER-RTC", 3 PC14-OSC32_IN (io) "PC14-OSC32_IN/PC14/OSC32_IN", 4 PC15-OSC32_OUT (io) "PC15-OSC32_OUT/PC15/OSC32_OUT", 5 PD0-OSC_IN (io) "PD0/OSC_IN/CAN_RX", 6 PD1-OSC_OUT (io) "PD1/OSC_OUT/CAN_TX", 7 NRST (io), 8 PC0 (io) "PC0/ADC123_IN10", 9 PC1 (io) "PC1/ADC123_IN11", 10 PC2 (io) "PC2/ADC123_IN12", 11 PC3 (io) "PC3/ADC123_IN13", 14 PA0-WKUP (io) "PA0-WKUP/PA0/WKUP/USART2_CTS/ADC123_IN0/TIM2_CH1_ETR/TIM5_CH1/TIM8_ETR", 15 PA1 (io) "PA1/USART2_RTS/ADC123_IN1/TIM5_CH2/TIM2_CH2", 16 PA2 (io) "PA2/USART2_TX/TIM5_CH3/ADC123_IN2/TIM2_CH3", 17 PA3 (io) "PA3/USART2_RX/TIM5_CH4/ADC123_IN3/TIM2_CH4", 20 PA4 (io) "PA4/SPI1_NSS/USART2_CK/DAC_OUT1/ADC12_IN4", 21 PA5 (io) "PA5/SPI1_SCK/DAC_OUT2/ADC12_IN5", 22 PA6 (io) "PA6/SPI1_MISO/TIM8_BKIN/ADC12_IN6/TIM3_CH1/TIM1_BKIN", 23 PA7 (io) "PA7/SPI1_MOSI/TIM8_CH1N/ADC12_IN7/TIM3_CH2/TIM1_CH1N", 24 PC4 (io) "PC4/ADC12_IN14", 25 PC5 (io) "PC5/ADC12_IN15", 26 PB0 (io) "PB0/ADC12_IN8/TIM3_CH3/TIM8_CH2N/TIM1_CH2N", 27 PB1 (io) "PB1/ADC12_IN9/TIM3_CH4/TIM8_CH3N/TIM1_CH3N", 28 PB2 (io) "PB2/BOOT1", 29 PB10 (io) "PB10/I2C2_SCL/USART3_TX/TIM2_CH3", 30 PB11 (io) "PB11/I2C2_SDA/USART3_RX/TIM2_CH4", 33 PB12 (io) "PB12/SPI2_NSS/I2S2_WS/I2C2_SMBA/USART3_CK/TIM1_BKIN", 34 PB13 (io) "PB13/SPI2_SCK/I2S2_CK/USART3_CTS/TIM1_CH1N", 35 PB14 (io) "PB14/SPI2_MISO/TIM1_CH2N/USART3_RTS", 36 PB15 (io) "PB15/SPI2_MOSI/I2S2_SD/TIM1_CH3N", 37 PC6 (io) "PC6/I2S2_MCK/TIM8_CH1/SDIO_D6/TIM3_CH1", 38 PC7 (io) "PC7/I2S3_MCK/TIM8_CH2/SDIO_D7/TIM3_CH2", 39 PC8 (io) "PC8/TIM8_CH3/SDIO_D0/TIM3_CH3", 40 PC9 (io) "PC9/TIM8_CH4/SDIO_D1/TIM3_CH4", 41 PA8 (io) "PA8/USART1_CK/TIM1_CH1/MCO", 42 PA9 (io) "PA9/USART1_TX/TIM1_CH2", 43 PA10 (io) "PA10/USART1_RX/TIM1_CH3", 44 PA11 (io) "PA11/USART1_CTS/USBDM/CAN_RX/TIM1_CH4", 45 PA12 (io) "PA12/USART1_RTS/USBDP/CAN_TX/TIM1_ETR", 46 PA13 (io) "PA13/JTMS-SWDIO", 49 PA14 (io) "PA14/JTCK-SWCLK", 50 PA15 (io) "PA15/JTDI/SPI3_NSS/I2S3_WS/TIM2_CH1_ETR/SPI1_NSS", 51 PC10 (io) "PC10/UART4_TX/SDIO_D2/USART3_TX", 52 PC11 (io) "PC11/UART4_RX/SDIO_D3/USART3_RX", 53 PC12 (io) "PC12/UART5_TX/SDIO_CK/USART3_CK", 54 PD2 (io) "PD2/TIM3_ETR/UART5_RX/SDIO_CMD", 55 PB3 (io) "PB3/JTDO/SPI3_SCK/I2S3_CK/TRACESWO/TIM2_CH2/SPI1_SCK", 56 PB4 (io) "PB4/NJTRST/SPI3_MISO/TIM3_CH1/SPI1_MISO", 57 PB5 (io) "PB5/I2C1_SMBA/SPI3_MOSI/I2S3_SD/TIM3_CH2/SPI1_MOSI", 58 PB6 (io) "PB6/I2C1_SCL/TIM4_CH1/USART1_TX", 59 PB7 (io) "PB7/I2C1_SDA/TIM4_CH2/USART1_RX", 60 BOOT0 (in), 61 PB8 (io) "PB8/TIM4_CH3/SDIO_D4/I2C1_SCL/CAN_RX", 62 PB9 (io) "PB9/TIM4_CH4/SDIO_D5/I2C1_SDA/CAN_TX"
part B pins: 1 VBAT (power), 12 VSSA (power), 13 VDDA (power), 18 VSS_4 (power), 19 VDD_4 (power), 31 VSS_1 (power), 32 VDD_1 (power), 47 VSS_2 (power), 48 VDD_2 (power), 63 VSS_3 (power), 64 VDD_3 (power)

## STM32F103RDY6TR
designator U?
ARM Cortex-M3 32-bit MCU, 384 KB Flash, 64 KB Internal RAM, 51 I/Os, 64-pin WLCSP, -40 to 85 degC, Tape and Reel
footprint STM-WLCSP64 (BGA, 64-Balls, Body 4.47x4.4mm, Pitch 0.5mm)
part A pins: A2 PC10 (io) "PC10/UART4_TX/SDIO_D2/USART3_TX", A3 PD2 (io) "PD2/TIM3_ETR/UART5_RX/SDIO_CMD", A4 PB3 (io) "PB3/JTDO/SPI3_SCK/I2S3_CK/TRACESWO/TIM2_CH2/SPI1_SCK", A5 PB5 (io) "PB5/I2C1_SMBA/SPI3_MOSI/I2S3_SD/TIM3_CH2/SPI1_MOSI", A6 BOOT0 (in), B2 PA14 (io) "PA14/JTCK-SWCLK", B3 PC11 (io) "PC11/UART4_RX/SDIO_D3/USART3_RX", B4 PB4 (io) "PB4/NJTRST/SPI3_MISO/TIM3_CH1/SPI1_MISO", B5 PB6 (io) "PB6/I2C1_SCL/TIM4_CH1/USART1_TX", B6 PB9 (io) "PB9/TIM4_CH4/SDIO_D5/I2C1_SDA/CAN_TX", B7 PC15-OSC32_OUT (io) "PC15-OSC32_OUT/PC15/OSC32_OUT", B8 PC14-OSC32_IN (io) "PC14-OSC32_IN/PC14/OSC32_IN", C1 PA11 (io) "PA11/USART1_CTS/USBDM/CAN_RX/TIM1_CH4", C2 PA12 (io) "PA12/USART1_RTS/USBDP/CAN_TX/TIM1_ETR", C3 PA15 (io) "PA15/JTDI/SPI3_NSS/I2S3_WS/TIM2_CH1_ETR/SPI1_NSS", C4 PC12 (io) "PC12/UART5_TX/SDIO_CK/USART3_CK", C5 PB7 (io) "PB7/I2C1_SDA/FSMC_NADV/TIM4_CH2/USART1_RX", C7 NRST (io), C8 PC13-TAMPER-RTC (io) "PC13-TAMPER-RTC/PC13/TAMPER-RTC", D1 PC9 (io) "PC9/TIM8_CH4/SDIO_D1/TIM3_CH4", D2 PA9 (io) "PA9/USART1_TX/TIM1_CH2", D3 PA10 (io) "PA10/USART1_RX/TIM1_CH3", D4 PA13 (io) "PA13/JTMS-SWDIO", D5 PB8 (io) "PB8/TIM4_CH3/SDIO_D4/I2C1_SCL/CAN_RX", D6 PC2 (io) "PC2/ADC123_IN12", D7 OSC_OUT (out) "PD1/OSC_OUT/FSMC_D3/CAN_TX", D8 OSC_IN (in) "PD0/OSC_IN/FSMC_D2/CAN_RX", E1 PC6 (io) "PC6/I2S2_MCK/TIM8_CH1/SDIO_D6/TIM3_CH1", E2 PC7 (io) "PC7/I2S3_MCK/TIM8_CH2/SDIO_D7/TIM3_CH2", E3 PC8 (io) "PC8/TIM8_CH3/SDIO_D0/TIM3_CH3", E4 PA8 (io) "PA8/USART1_CK/TIM1_CH1/MCO", E5 PA5 (io) "PA5/SPI1_SCK/DAC_OUT2/ADC12_IN5", E6 PA1 (io) "PA1/USART2_RTS/ADC123_IN1/TIM5_CH2/TIM2_CH2", E8 PC0 (io) "PC0/ADC123_IN10", F1 PB15 (io) "PB15/SPI2_MOSI/I2S2_SD/TIM1_CH3N", F2 PB14 (io) "PB14/SPI2_MISO/TIM1_CH2N/USART3_RTS", F3 PB11 (io) "PB11/I2C2_SDA/USART3_RX/TIM2_CH4", F4 PB1 (io) "PB1/ADC12_IN9/TIM3_CH4/TIM8_CH3N/TIM1_CH3N", F6 PA0-WKUP (io) "PA0-WKUP/PA0/WKUP/USART2_CTS/ADC123_IN0/TIM2_CH1_ETR/TIM5_CH1/TIM8_ETR", F8 PC1 (io) "PC1/ADC123_IN11", G1 PB13 (io) "PB13/SPI2_SCK/I2S2_CK/USART3_CTS/TIM1_CH1N", G2 PB12 (io) "PB12/SPI2_NSS/I2S2_WS/I2C2_SMBA/USART3_CK/TIM1_BKIN", G3 PB10 (io) "PB10/I2C2_SCL/USART3_TX/TIM2_CH3", G4 PA7 (io) "PA7/SPI1_MOSI/TIM8_CH1N/ADC12_IN7/TIM3_CH2/TIM1_CH1N", G5 PA6 (io) "PA6/SPI1_MISO/TIM8_BKIN/ADC12_IN6/TIM3_CH1/TIM1_BKIN", G7 PA3 (io) "PA3/USART2_RX/TIM5_CH4/ADC123_IN3/TIM2_CH4", H3 PB2 (io) "PB2/BOOT1", H4 PB0 (io) "PB0/ADC12_IN8/TIM3_CH3/TIM8_CH2N/TIM1_CH2N", H5 PC5 (io) "PC5/ADC12_IN15", H6 PC4 (io) "PC4/ADC12_IN14", H7 PA4 (io) "PA4/SPI1_NSS/USART2_CK/DAC_OUT1/ADC12_IN4", H8 PA2 (io) "PA2/USART2_TX/TIM5_CH3/ADC123_IN2/TIM2_CH3"
part B pins: A1 VDD_2 (power), A7 VSS_3 (power), A8 VDD_3 (power), B1 VSS_2 (power), C6 VBAT (power), E7 VSSA (power), F5 VSS_4 (power), F7 VREF+ (power), G6 VDD_4 (power), G8 VDDA (power), H1 VDD_1 (power), H2 VSS_1 (power)

## STM32F103RET6
designator U?
ARM Cortex-M3 32-bit MCU, 512 KB Flash, 64 KB Internal RAM, 51 I/Os, 64-pin LQFP, -40 to 85 degC, Tray
footprint STM-LQFP64_N (Thin QFP, 64-Leads, Body 10x10mm, Pitch 0.5mm, IPC Medium Density)
footprint STM-LQFP64_L (Thin QFP, 64-Leads, Body 10x10mm, Pitch 0.5mm, IPC High Density)
footprint STM-LQFP64_M (Thin QFP, 64-Leads, Body 10x10mm, Pitch 0.5mm, IPC Low Density)
footprint STM-LQFP64_V (Thin QFP, 64-Leads, Body 10x10mm, Pitch 0.5mm, ST Recommended)
part A pins: 2 PC13-TAMPER-RTC (io) "PC13-TAMPER-RTC/PC13/TAMPER-RTC", 3 PC14-OSC32_IN (io) "PC14-OSC32_IN/PC14/OSC32_IN", 4 PC15-OSC32_OUT (io) "PC15-OSC32_OUT/PC15/OSC32_OUT", 5 PD0-OSC_IN (io) "PD0/OSC_IN/CAN_RX", 6 PD1-OSC_OUT (io) "PD1/OSC_OUT/CAN_TX", 7 NRST (io), 8 PC0 (io) "PC0/ADC123_IN10", 9 PC1 (io) "PC1/ADC123_IN11", 10 PC2 (io) "PC2/ADC123_IN12", 11 PC3 (io) "PC3/ADC123_IN13", 14 PA0-WKUP (io) "PA0-WKUP/PA0/WKUP/USART2_CTS/ADC123_IN0/TIM2_CH1_ETR/TIM5_CH1/TIM8_ETR", 15 PA1 (io) "PA1/USART2_RTS/ADC123_IN1/TIM5_CH2/TIM2_CH2", 16 PA2 (io) "PA2/USART2_TX/TIM5_CH3/ADC123_IN2/TIM2_CH3", 17 PA3 (io) "PA3/USART2_RX/TIM5_CH4/ADC123_IN3/TIM2_CH4", 20 PA4 (io) "PA4/SPI1_NSS/USART2_CK/DAC_OUT1/ADC12_IN4", 21 PA5 (io) "PA5/SPI1_SCK/DAC_OUT2/ADC12_IN5", 22 PA6 (io) "PA6/SPI1_MISO/TIM8_BKIN/ADC12_IN6/TIM3_CH1/TIM1_BKIN", 23 PA7 (io) "PA7/SPI1_MOSI/TIM8_CH1N/ADC12_IN7/TIM3_CH2/TIM1_CH1N", 24 PC4 (io) "PC4/ADC12_IN14", 25 PC5 (io) "PC5/ADC12_IN15", 26 PB0 (io) "PB0/ADC12_IN8/TIM3_CH3/TIM8_CH2N/TIM1_CH2N", 27 PB1 (io) "PB1/ADC12_IN9/TIM3_CH4/TIM8_CH3N/TIM1_CH3N", 28 PB2 (io) "PB2/BOOT1", 29 PB10 (io) "PB10/I2C2_SCL/USART3_TX/TIM2_CH3", 30 PB11 (io) "PB11/I2C2_SDA/USART3_RX/TIM2_CH4", 33 PB12 (io) "PB12/SPI2_NSS/I2S2_WS/I2C2_SMBA/USART3_CK/TIM1_BKIN", 34 PB13 (io) "PB13/SPI2_SCK/I2S2_CK/USART3_CTS/TIM1_CH1N", 35 PB14 (io) "PB14/SPI2_MISO/TIM1_CH2N/USART3_RTS", 36 PB15 (io) "PB15/SPI2_MOSI/I2S2_SD/TIM1_CH3N", 37 PC6 (io) "PC6/I2S2_MCK/TIM8_CH1/SDIO_D6/TIM3_CH1", 38 PC7 (io) "PC7/I2S3_MCK/TIM8_CH2/SDIO_D7/TIM3_CH2", 39 PC8 (io) "PC8/TIM8_CH3/SDIO_D0/TIM3_CH3", 40 PC9 (io) "PC9/TIM8_CH4/SDIO_D1/TIM3_CH4", 41 PA8 (io) "PA8/USART1_CK/TIM1_CH1/MCO", 42 PA9 (io) "PA9/USART1_TX/TIM1_CH2", 43 PA10 (io) "PA10/USART1_RX/TIM1_CH3", 44 PA11 (io) "PA11/USART1_CTS/USBDM/CAN_RX/TIM1_CH4", 45 PA12 (io) "PA12/USART1_RTS/USBDP/CAN_TX/TIM1_ETR", 46 PA13 (io) "PA13/JTMS-SWDIO", 49 PA14 (io) "PA14/JTCK-SWCLK", 50 PA15 (io) "PA15/JTDI/SPI3_NSS/I2S3_WS/TIM2_CH1_ETR/SPI1_NSS", 51 PC10 (io) "PC10/UART4_TX/SDIO_D2/USART3_TX", 52 PC11 (io) "PC11/UART4_RX/SDIO_D3/USART3_RX", 53 PC12 (io) "PC12/UART5_TX/SDIO_CK/USART3_CK", 54 PD2 (io) "PD2/TIM3_ETR/UART5_RX/SDIO_CMD", 55 PB3 (io) "PB3/JTDO/SPI3_SCK/I2S3_CK/TRACESWO/TIM2_CH2/SPI1_SCK", 56 PB4 (io) "PB4/NJTRST/SPI3_MISO/TIM3_CH1/SPI1_MISO", 57 PB5 (io) "PB5/I2C1_SMBA/SPI3_MOSI/I2S3_SD/TIM3_CH2/SPI1_MOSI", 58 PB6 (io) "PB6/I2C1_SCL/TIM4_CH1/USART1_TX", 59 PB7 (io) "PB7/I2C1_SDA/TIM4_CH2/USART1_RX", 60 BOOT0 (in), 61 PB8 (io) "PB8/TIM4_CH3/SDIO_D4/I2C1_SCL/CAN_RX", 62 PB9 (io) "PB9/TIM4_CH4/SDIO_D5/I2C1_SDA/CAN_TX"
part B pins: 1 VBAT (power), 12 VSSA (power), 13 VDDA (power), 18 VSS_4 (power), 19 VDD_4 (power), 31 VSS_1 (power), 32 VDD_1 (power), 47 VSS_2 (power), 48 VDD_2 (power), 63 VSS_3 (power), 64 VDD_3 (power)

## STM32F103RET6TR
designator U?
ARM Cortex-M3 32-bit MCU, 512 KB Flash, 64 KB Internal RAM, 51 I/Os, 64-pin LQFP, -40 to 85 degC, Tape and Reel
footprint STM-LQFP64_N (Thin QFP, 64-Leads, Body 10x10mm, Pitch 0.5mm, IPC Medium Density)
footprint STM-LQFP64_L (Thin QFP, 64-Leads, Body 10x10mm, Pitch 0.5mm, IPC High Density)
footprint STM-LQFP64_M (Thin QFP, 64-Leads, Body 10x10mm, Pitch 0.5mm, IPC Low Density)
footprint STM-LQFP64_V (Thin QFP, 64-Leads, Body 10x10mm, Pitch 0.5mm, ST Recommended)
part A pins: 2 PC13-TAMPER-RTC (io) "PC13-TAMPER-RTC/PC13/TAMPER-RTC", 3 PC14-OSC32_IN (io) "PC14-OSC32_IN/PC14/OSC32_IN", 4 PC15-OSC32_OUT (io) "PC15-OSC32_OUT/PC15/OSC32_OUT", 5 PD0-OSC_IN (io) "PD0/OSC_IN/CAN_RX", 6 PD1-OSC_OUT (io) "PD1/OSC_OUT/CAN_TX", 7 NRST (io), 8 PC0 (io) "PC0/ADC123_IN10", 9 PC1 (io) "PC1/ADC123_IN11", 10 PC2 (io) "PC2/ADC123_IN12", 11 PC3 (io) "PC3/ADC123_IN13", 14 PA0-WKUP (io) "PA0-WKUP/PA0/WKUP/USART2_CTS/ADC123_IN0/TIM2_CH1_ETR/TIM5_CH1/TIM8_ETR", 15 PA1 (io) "PA1/USART2_RTS/ADC123_IN1/TIM5_CH2/TIM2_CH2", 16 PA2 (io) "PA2/USART2_TX/TIM5_CH3/ADC123_IN2/TIM2_CH3", 17 PA3 (io) "PA3/USART2_RX/TIM5_CH4/ADC123_IN3/TIM2_CH4", 20 PA4 (io) "PA4/SPI1_NSS/USART2_CK/DAC_OUT1/ADC12_IN4", 21 PA5 (io) "PA5/SPI1_SCK/DAC_OUT2/ADC12_IN5", 22 PA6 (io) "PA6/SPI1_MISO/TIM8_BKIN/ADC12_IN6/TIM3_CH1/TIM1_BKIN", 23 PA7 (io) "PA7/SPI1_MOSI/TIM8_CH1N/ADC12_IN7/TIM3_CH2/TIM1_CH1N", 24 PC4 (io) "PC4/ADC12_IN14", 25 PC5 (io) "PC5/ADC12_IN15", 26 PB0 (io) "PB0/ADC12_IN8/TIM3_CH3/TIM8_CH2N/TIM1_CH2N", 27 PB1 (io) "PB1/ADC12_IN9/TIM3_CH4/TIM8_CH3N/TIM1_CH3N", 28 PB2 (io) "PB2/BOOT1", 29 PB10 (io) "PB10/I2C2_SCL/USART3_TX/TIM2_CH3", 30 PB11 (io) "PB11/I2C2_SDA/USART3_RX/TIM2_CH4", 33 PB12 (io) "PB12/SPI2_NSS/I2S2_WS/I2C2_SMBA/USART3_CK/TIM1_BKIN", 34 PB13 (io) "PB13/SPI2_SCK/I2S2_CK/USART3_CTS/TIM1_CH1N", 35 PB14 (io) "PB14/SPI2_MISO/TIM1_CH2N/USART3_RTS", 36 PB15 (io) "PB15/SPI2_MOSI/I2S2_SD/TIM1_CH3N", 37 PC6 (io) "PC6/I2S2_MCK/TIM8_CH1/SDIO_D6/TIM3_CH1", 38 PC7 (io) "PC7/I2S3_MCK/TIM8_CH2/SDIO_D7/TIM3_CH2", 39 PC8 (io) "PC8/TIM8_CH3/SDIO_D0/TIM3_CH3", 40 PC9 (io) "PC9/TIM8_CH4/SDIO_D1/TIM3_CH4", 41 PA8 (io) "PA8/USART1_CK/TIM1_CH1/MCO", 42 PA9 (io) "PA9/USART1_TX/TIM1_CH2", 43 PA10 (io) "PA10/USART1_RX/TIM1_CH3", 44 PA11 (io) "PA11/USART1_CTS/USBDM/CAN_RX/TIM1_CH4", 45 PA12 (io) "PA12/USART1_RTS/USBDP/CAN_TX/TIM1_ETR", 46 PA13 (io) "PA13/JTMS-SWDIO", 49 PA14 (io) "PA14/JTCK-SWCLK", 50 PA15 (io) "PA15/JTDI/SPI3_NSS/I2S3_WS/TIM2_CH1_ETR/SPI1_NSS", 51 PC10 (io) "PC10/UART4_TX/SDIO_D2/USART3_TX", 52 PC11 (io) "PC11/UART4_RX/SDIO_D3/USART3_RX", 53 PC12 (io) "PC12/UART5_TX/SDIO_CK/USART3_CK", 54 PD2 (io) "PD2/TIM3_ETR/UART5_RX/SDIO_CMD", 55 PB3 (io) "PB3/JTDO/SPI3_SCK/I2S3_CK/TRACESWO/TIM2_CH2/SPI1_SCK", 56 PB4 (io) "PB4/NJTRST/SPI3_MISO/TIM3_CH1/SPI1_MISO", 57 PB5 (io) "PB5/I2C1_SMBA/SPI3_MOSI/I2S3_SD/TIM3_CH2/SPI1_MOSI", 58 PB6 (io) "PB6/I2C1_SCL/TIM4_CH1/USART1_TX", 59 PB7 (io) "PB7/I2C1_SDA/TIM4_CH2/USART1_RX", 60 BOOT0 (in), 61 PB8 (io) "PB8/TIM4_CH3/SDIO_D4/I2C1_SCL/CAN_RX", 62 PB9 (io) "PB9/TIM4_CH4/SDIO_D5/I2C1_SDA/CAN_TX"
part B pins: 1 VBAT (power), 12 VSSA (power), 13 VDDA (power), 18 VSS_4 (power), 19 VDD_4 (power), 31 VSS_1 (power), 32 VDD_1 (power), 47 VSS_2 (power), 48 VDD_2 (power), 63 VSS_3 (power), 64 VDD_3 (power)

## STM32F103RET7
designator U?
ARM Cortex-M3 32-bit MCU, 512 KB Flash, 64 KB Internal RAM, 51 I/Os, 64-pin LQFP, -40 to 105 degC, Tray
footprint STM-LQFP64_N (Thin QFP, 64-Leads, Body 10x10mm, Pitch 0.5mm, IPC Medium Density)
footprint STM-LQFP64_L (Thin QFP, 64-Leads, Body 10x10mm, Pitch 0.5mm, IPC High Density)
footprint STM-LQFP64_M (Thin QFP, 64-Leads, Body 10x10mm, Pitch 0.5mm, IPC Low Density)
footprint STM-LQFP64_V (Thin QFP, 64-Leads, Body 10x10mm, Pitch 0.5mm, ST Recommended)
part A pins: 2 PC13-TAMPER-RTC (io) "PC13-TAMPER-RTC/PC13/TAMPER-RTC", 3 PC14-OSC32_IN (io) "PC14-OSC32_IN/PC14/OSC32_IN", 4 PC15-OSC32_OUT (io) "PC15-OSC32_OUT/PC15/OSC32_OUT", 5 PD0-OSC_IN (io) "PD0/OSC_IN/CAN_RX", 6 PD1-OSC_OUT (io) "PD1/OSC_OUT/CAN_TX", 7 NRST (io), 8 PC0 (io) "PC0/ADC123_IN10", 9 PC1 (io) "PC1/ADC123_IN11", 10 PC2 (io) "PC2/ADC123_IN12", 11 PC3 (io) "PC3/ADC123_IN13", 14 PA0-WKUP (io) "PA0-WKUP/PA0/WKUP/USART2_CTS/ADC123_IN0/TIM2_CH1_ETR/TIM5_CH1/TIM8_ETR", 15 PA1 (io) "PA1/USART2_RTS/ADC123_IN1/TIM5_CH2/TIM2_CH2", 16 PA2 (io) "PA2/USART2_TX/TIM5_CH3/ADC123_IN2/TIM2_CH3", 17 PA3 (io) "PA3/USART2_RX/TIM5_CH4/ADC123_IN3/TIM2_CH4", 20 PA4 (io) "PA4/SPI1_NSS/USART2_CK/DAC_OUT1/ADC12_IN4", 21 PA5 (io) "PA5/SPI1_SCK/DAC_OUT2/ADC12_IN5", 22 PA6 (io) "PA6/SPI1_MISO/TIM8_BKIN/ADC12_IN6/TIM3_CH1/TIM1_BKIN", 23 PA7 (io) "PA7/SPI1_MOSI/TIM8_CH1N/ADC12_IN7/TIM3_CH2/TIM1_CH1N", 24 PC4 (io) "PC4/ADC12_IN14", 25 PC5 (io) "PC5/ADC12_IN15", 26 PB0 (io) "PB0/ADC12_IN8/TIM3_CH3/TIM8_CH2N/TIM1_CH2N", 27 PB1 (io) "PB1/ADC12_IN9/TIM3_CH4/TIM8_CH3N/TIM1_CH3N", 28 PB2 (io) "PB2/BOOT1", 29 PB10 (io) "PB10/I2C2_SCL/USART3_TX/TIM2_CH3", 30 PB11 (io) "PB11/I2C2_SDA/USART3_RX/TIM2_CH4", 33 PB12 (io) "PB12/SPI2_NSS/I2S2_WS/I2C2_SMBA/USART3_CK/TIM1_BKIN", 34 PB13 (io) "PB13/SPI2_SCK/I2S2_CK/USART3_CTS/TIM1_CH1N", 35 PB14 (io) "PB14/SPI2_MISO/TIM1_CH2N/USART3_RTS", 36 PB15 (io) "PB15/SPI2_MOSI/I2S2_SD/TIM1_CH3N", 37 PC6 (io) "PC6/I2S2_MCK/TIM8_CH1/SDIO_D6/TIM3_CH1", 38 PC7 (io) "PC7/I2S3_MCK/TIM8_CH2/SDIO_D7/TIM3_CH2", 39 PC8 (io) "PC8/TIM8_CH3/SDIO_D0/TIM3_CH3", 40 PC9 (io) "PC9/TIM8_CH4/SDIO_D1/TIM3_CH4", 41 PA8 (io) "PA8/USART1_CK/TIM1_CH1/MCO", 42 PA9 (io) "PA9/USART1_TX/TIM1_CH2", 43 PA10 (io) "PA10/USART1_RX/TIM1_CH3", 44 PA11 (io) "PA11/USART1_CTS/USBDM/CAN_RX/TIM1_CH4", 45 PA12 (io) "PA12/USART1_RTS/USBDP/CAN_TX/TIM1_ETR", 46 PA13 (io) "PA13/JTMS-SWDIO", 49 PA14 (io) "PA14/JTCK-SWCLK", 50 PA15 (io) "PA15/JTDI/SPI3_NSS/I2S3_WS/TIM2_CH1_ETR/SPI1_NSS", 51 PC10 (io) "PC10/UART4_TX/SDIO_D2/USART3_TX", 52 PC11 (io) "PC11/UART4_RX/SDIO_D3/USART3_RX", 53 PC12 (io) "PC12/UART5_TX/SDIO_CK/USART3_CK", 54 PD2 (io) "PD2/TIM3_ETR/UART5_RX/SDIO_CMD", 55 PB3 (io) "PB3/JTDO/SPI3_SCK/I2S3_CK/TRACESWO/TIM2_CH2/SPI1_SCK", 56 PB4 (io) "PB4/NJTRST/SPI3_MISO/TIM3_CH1/SPI1_MISO", 57 PB5 (io) "PB5/I2C1_SMBA/SPI3_MOSI/I2S3_SD/TIM3_CH2/SPI1_MOSI", 58 PB6 (io) "PB6/I2C1_SCL/TIM4_CH1/USART1_TX", 59 PB7 (io) "PB7/I2C1_SDA/TIM4_CH2/USART1_RX", 60 BOOT0 (in), 61 PB8 (io) "PB8/TIM4_CH3/SDIO_D4/I2C1_SCL/CAN_RX", 62 PB9 (io) "PB9/TIM4_CH4/SDIO_D5/I2C1_SDA/CAN_TX"
part B pins: 1 VBAT (power), 12 VSSA (power), 13 VDDA (power), 18 VSS_4 (power), 19 VDD_4 (power), 31 VSS_1 (power), 32 VDD_1 (power), 47 VSS_2 (power), 48 VDD_2 (power), 63 VSS_3 (power), 64 VDD_3 (power)

## STM32F103REY6TR
designator U?
ARM Cortex-M3 32-bit MCU, 512 KB Flash, 64 KB Internal RAM, 51 I/Os, 64-pin WLCSP, -40 to 85 degC, Tape and Reel
footprint STM-WLCSP64 (BGA, 64-Balls, Body 4.47x4.4mm, Pitch 0.5mm)
part A pins: A2 PC10 (io) "PC10/UART4_TX/SDIO_D2/USART3_TX", A3 PD2 (io) "PD2/TIM3_ETR/UART5_RX/SDIO_CMD", A4 PB3 (io) "PB3/JTDO/SPI3_SCK/I2S3_CK/TRACESWO/TIM2_CH2/SPI1_SCK", A5 PB5 (io) "PB5/I2C1_SMBA/SPI3_MOSI/I2S3_SD/TIM3_CH2/SPI1_MOSI", A6 BOOT0 (in), B2 PA14 (io) "PA14/JTCK-SWCLK", B3 PC11 (io) "PC11/UART4_RX/SDIO_D3/USART3_RX", B4 PB4 (io) "PB4/NJTRST/SPI3_MISO/TIM3_CH1/SPI1_MISO", B5 PB6 (io) "PB6/I2C1_SCL/TIM4_CH1/USART1_TX", B6 PB9 (io) "PB9/TIM4_CH4/SDIO_D5/I2C1_SDA/CAN_TX", B7 PC15-OSC32_OUT (io) "PC15-OSC32_OUT/PC15/OSC32_OUT", B8 PC14-OSC32_IN (io) "PC14-OSC32_IN/PC14/OSC32_IN", C1 PA11 (io) "PA11/USART1_CTS/USBDM/CAN_RX/TIM1_CH4", C2 PA12 (io) "PA12/USART1_RTS/USBDP/CAN_TX/TIM1_ETR", C3 PA15 (io) "PA15/JTDI/SPI3_NSS/I2S3_WS/TIM2_CH1_ETR/SPI1_NSS", C4 PC12 (io) "PC12/UART5_TX/SDIO_CK/USART3_CK", C5 PB7 (io) "PB7/I2C1_SDA/FSMC_NADV/TIM4_CH2/USART1_RX", C7 NRST (io), C8 PC13-TAMPER-RTC (io) "PC13-TAMPER-RTC/PC13/TAMPER-RTC", D1 PC9 (io) "PC9/TIM8_CH4/SDIO_D1/TIM3_CH4", D2 PA9 (io) "PA9/USART1_TX/TIM1_CH2", D3 PA10 (io) "PA10/USART1_RX/TIM1_CH3", D4 PA13 (io) "PA13/JTMS-SWDIO", D5 PB8 (io) "PB8/TIM4_CH3/SDIO_D4/I2C1_SCL/CAN_RX", D6 PC2 (io) "PC2/ADC123_IN12", D7 OSC_OUT (out) "PD1/OSC_OUT/FSMC_D3/CAN_TX", D8 OSC_IN (in) "PD0/OSC_IN/FSMC_D2/CAN_RX", E1 PC6 (io) "PC6/I2S2_MCK/TIM8_CH1/SDIO_D6/TIM3_CH1", E2 PC7 (io) "PC7/I2S3_MCK/TIM8_CH2/SDIO_D7/TIM3_CH2", E3 PC8 (io) "PC8/TIM8_CH3/SDIO_D0/TIM3_CH3", E4 PA8 (io) "PA8/USART1_CK/TIM1_CH1/MCO", E5 PA5 (io) "PA5/SPI1_SCK/DAC_OUT2/ADC12_IN5", E6 PA1 (io) "PA1/USART2_RTS/ADC123_IN1/TIM5_CH2/TIM2_CH2", E8 PC0 (io) "PC0/ADC123_IN10", F1 PB15 (io) "PB15/SPI2_MOSI/I2S2_SD/TIM1_CH3N", F2 PB14 (io) "PB14/SPI2_MISO/TIM1_CH2N/USART3_RTS", F3 PB11 (io) "PB11/I2C2_SDA/USART3_RX/TIM2_CH4", F4 PB1 (io) "PB1/ADC12_IN9/TIM3_CH4/TIM8_CH3N/TIM1_CH3N", F6 PA0-WKUP (io) "PA0-WKUP/PA0/WKUP/USART2_CTS/ADC123_IN0/TIM2_CH1_ETR/TIM5_CH1/TIM8_ETR", F8 PC1 (io) "PC1/ADC123_IN11", G1 PB13 (io) "PB13/SPI2_SCK/I2S2_CK/USART3_CTS/TIM1_CH1N", G2 PB12 (io) "PB12/SPI2_NSS/I2S2_WS/I2C2_SMBA/USART3_CK/TIM1_BKIN", G3 PB10 (io) "PB10/I2C2_SCL/USART3_TX/TIM2_CH3", G4 PA7 (io) "PA7/SPI1_MOSI/TIM8_CH1N/ADC12_IN7/TIM3_CH2/TIM1_CH1N", G5 PA6 (io) "PA6/SPI1_MISO/TIM8_BKIN/ADC12_IN6/TIM3_CH1/TIM1_BKIN", G7 PA3 (io) "PA3/USART2_RX/TIM5_CH4/ADC123_IN3/TIM2_CH4", H3 PB2 (io) "PB2/BOOT1", H4 PB0 (io) "PB0/ADC12_IN8/TIM3_CH3/TIM8_CH2N/TIM1_CH2N", H5 PC5 (io) "PC5/ADC12_IN15", H6 PC4 (io) "PC4/ADC12_IN14", H7 PA4 (io) "PA4/SPI1_NSS/USART2_CK/DAC_OUT1/ADC12_IN4", H8 PA2 (io) "PA2/USART2_TX/TIM5_CH3/ADC123_IN2/TIM2_CH3"
part B pins: A1 VDD_2 (power), A7 VSS_3 (power), A8 VDD_3 (power), B1 VSS_2 (power), C6 VBAT (power), E7 VSSA (power), F5 VSS_4 (power), F7 VREF+ (power), G6 VDD_4 (power), G8 VDDA (power), H1 VDD_1 (power), H2 VSS_1 (power)

## STM32F103RFT6
designator U?
ARM Cortex-M3 32-bit MCU, 768 KB Flash, 96 KB Internal RAM, 51 I/Os, 64-pin LQFP, -40 to 85 degC, Tray
footprint STM-LQFP64_N (Thin QFP, 64-Leads, Body 10x10mm, Pitch 0.5mm, IPC Medium Density)
footprint STM-LQFP64_L (Thin QFP, 64-Leads, Body 10x10mm, Pitch 0.5mm, IPC High Density)
footprint STM-LQFP64_M (Thin QFP, 64-Leads, Body 10x10mm, Pitch 0.5mm, IPC Low Density)
footprint STM-LQFP64_V (Thin QFP, 64-Leads, Body 10x10mm, Pitch 0.5mm, ST Recommended)
part A pins: 2 PC13-TAMPER-RTC (io) "PC13-TAMPER-RTC/PC13/TAMPER-RTC", 3 PC14-OSC32_IN (io) "PC14-OSC32_IN/PC14/OSC32_IN", 4 PC15-OSC32_OUT (io) "PC15-OSC32_OUT/PC15/OSC32_OUT", 5 PD0-OSC_IN (io) "PD0/OSC_IN", 6 PD1-OSC_OUT (io) "PD1/OSC_OUT", 7 NRST (io), 8 PC0 (io) "PC0/ADC123_IN10", 9 PC1 (io) "PC1/ADC123_IN11", 10 PC2 (io) "PC2/ADC123_IN12", 11 PC3 (io) "PC3/ADC123_IN13", 14 PA0-WKUP (io) "PA0-WKUP/PA0/WKUP/USART2_CTS/ADC123_IN0/TIM2_CH1_ETR/TIM5_CH1/TIM8_ETR", 15 PA1 (io) "PA1/USART2_RTS/ADC123_IN1/TIM5_CH2/TIM2_CH2", 16 PA2 (io) "PA2/USART2_TX/TIM5_CH3/ADC123_IN2/TIM9_CH1/TIM2_CH3", 17 PA3 (io) "PA3/USART2_RX/TIM5_CH4/ADC123_IN3/TIM2_CH4/TIM9_CH2", 20 PA4 (io) "PA4/SPI1_NSS/USART2_CK/DAC_OUT1/ADC12_IN4", 21 PA5 (io) "PA5/SPI1_SCK/DAC_OUT2/ADC12_IN5", 22 PA6 (io) "PA6/SPI1_MISO/TIM8_BKIN/ADC12_IN6/TIM3_CH1/TIM13_CH1/TIM1_BKIN", 23 PA7 (io) "PA7/SPI1_MOSI/TIM8_CH1N/ADC12_IN7/TIM3_CH2/TIM14_CH1/TIM1_CH1N", 24 PC4 (io) "PC4/ADC12_IN14", 25 PC5 (io) "PC5/ADC12_IN15", 26 PB0 (io) "PB0/ADC12_IN8/TIM3_CH3/TIM8_CH2N/TIM1_CH2N", 27 PB1 (io) "PB1/ADC12_IN9/TIM3_CH4/TIM8_CH3N/TIM1_CH3N", 28 PB2 (io) "PB2/BOOT1", 29 PB10 (io) "PB10/I2C2_SCL/USART3_TX/TIM2_CH3", 30 PB11 (io) "PB11/I2C2_SDA/USART3_RX/TIM2_CH4", 33 PB12 (io) "PB12/SPI2_NSS/I2S2_WS/I2C2_SMBA/USART3_CK/TIM1_BKIN", 34 PB13 (io) "PB13/SPI2_SCK/I2S2_CK/USART3_CTS/TIM1_CH1N", 35 PB14 (io) "PB14/SPI2_MISO/TIM1_CH2N/USART3_RTS/TIM12_CH1", 36 PB15 (io) "PB15/SPI2_MOSI/I2S2_SD/TIM1_CH3N/TIM12_CH2", 37 PC6 (io) "PC6/I2S2_MCK/TIM8_CH1/SDIO_D6/TIM3_CH1", 38 PC7 (io) "PC7/I2S3_MCK/TIM8_CH2/SDIO_D7/TIM3_CH2", 39 PC8 (io) "PC8/TIM8_CH3/SDIO_D0/TIM3_CH3", 40 PC9 (io) "PC9/TIM8_CH4/SDIO_D1/TIM3_CH4", 41 PA8 (io) "PA8/USART1_CK/TIM1_CH1/MCO", 42 PA9 (io) "PA9/USART1_TX/TIM1_CH2", 43 PA10 (io) "PA10/USART1_RX/TIM1_CH3", 44 PA11 (io) "PA11/USART1_CTS/USBDM/CAN_RX/TIM1_CH4", 45 PA12 (io) "PA12/USART1_RTS/USBDP/CAN_TX/TIM1_ETR", 46 PA13 (io) "PA13/JTMS-SWDIO", 49 PA14 (io) "PA14/JTCK-SWCLK", 50 PA15 (io) "PA15/JTDI/SPI3_NSS/I2S3_WS/TIM2_CH1_ETR/SPI1_NSS", 51 PC10 (io) "PC10/UART4_TX/SDIO_D2/USART3_TX", 52 PC11 (io) "PC11/UART4_RX/SDIO_D3/USART3_RX", 53 PC12 (io) "PC12/UART5_TX/SDIO_CK/USART3_CK", 54 PD2 (io) "PD2/TIM3_ETR/UART5_RX/SDIO_CMD", 55 PB3 (io) "PB3/JTDO/SPI3_SCK/I2S3_CK/TRACESWO/TIM2_CH2/SPI1_SCK", 56 PB4 (io) "PB4/NJTRST/SPI3_MISO/TIM3_CH1/SPI1_MISO", 57 PB5 (io) "PB5/I2C1_SMBA/SPI3_MOSI/I2S3_SD/TIM3_CH2/SPI1_MOSI", 58 PB6 (io) "PB6/I2C1_SCL/TIM4_CH1/USART1_TX", 59 PB7 (io) "PB7/I2C1_SDA/TIM4_CH2/USART1_RX", 60 BOOT0 (in), 61 PB8 (io) "PB8/TIM4_CH3/SDIO_D4/TIM10_CH1/I2C1_SCL/CAN_RX", 62 PB9 (io) "PB9/TIM4_CH4/SDIO_D5/TIM11_CH1/I2C1_SDA/CAN_TX"
part B pins: 1 VBAT (power), 12 VSSA (power), 13 VDDA (power), 18 VSS_4 (power), 19 VDD_4 (power), 31 VSS_1 (power), 32 VDD_1 (power), 47 VSS_2 (power), 48 VDD_2 (power), 63 VSS_3 (power), 64 VDD_3 (power)

## STM32F103RFT6TR
designator U?
ARM Cortex-M3 32-bit MCU, 768 KB Flash, 96 KB Internal RAM, 51 I/Os, 64-pin LQFP, -40 to 85 degC, Tape and Reel
footprint STM-LQFP64_N (Thin QFP, 64-Leads, Body 10x10mm, Pitch 0.5mm, IPC Medium Density)
footprint STM-LQFP64_L (Thin QFP, 64-Leads, Body 10x10mm, Pitch 0.5mm, IPC High Density)
footprint STM-LQFP64_M (Thin QFP, 64-Leads, Body 10x10mm, Pitch 0.5mm, IPC Low Density)
footprint STM-LQFP64_V (Thin QFP, 64-Leads, Body 10x10mm, Pitch 0.5mm, ST Recommended)
part A pins: 2 PC13-TAMPER-RTC (io) "PC13-TAMPER-RTC/PC13/TAMPER-RTC", 3 PC14-OSC32_IN (io) "PC14-OSC32_IN/PC14/OSC32_IN", 4 PC15-OSC32_OUT (io) "PC15-OSC32_OUT/PC15/OSC32_OUT", 5 PD0-OSC_IN (io) "PD0/OSC_IN", 6 PD1-OSC_OUT (io) "PD1/OSC_OUT", 7 NRST (io), 8 PC0 (io) "PC0/ADC123_IN10", 9 PC1 (io) "PC1/ADC123_IN11", 10 PC2 (io) "PC2/ADC123_IN12", 11 PC3 (io) "PC3/ADC123_IN13", 14 PA0-WKUP (io) "PA0-WKUP/PA0/WKUP/USART2_CTS/ADC123_IN0/TIM2_CH1_ETR/TIM5_CH1/TIM8_ETR", 15 PA1 (io) "PA1/USART2_RTS/ADC123_IN1/TIM5_CH2/TIM2_CH2", 16 PA2 (io) "PA2/USART2_TX/TIM5_CH3/ADC123_IN2/TIM9_CH1/TIM2_CH3", 17 PA3 (io) "PA3/USART2_RX/TIM5_CH4/ADC123_IN3/TIM2_CH4/TIM9_CH2", 20 PA4 (io) "PA4/SPI1_NSS/USART2_CK/DAC_OUT1/ADC12_IN4", 21 PA5 (io) "PA5/SPI1_SCK/DAC_OUT2/ADC12_IN5", 22 PA6 (io) "PA6/SPI1_MISO/TIM8_BKIN/ADC12_IN6/TIM3_CH1/TIM13_CH1/TIM1_BKIN", 23 PA7 (io) "PA7/SPI1_MOSI/TIM8_CH1N/ADC12_IN7/TIM3_CH2/TIM14_CH1/TIM1_CH1N", 24 PC4 (io) "PC4/ADC12_IN14", 25 PC5 (io) "PC5/ADC12_IN15", 26 PB0 (io) "PB0/ADC12_IN8/TIM3_CH3/TIM8_CH2N/TIM1_CH2N", 27 PB1 (io) "PB1/ADC12_IN9/TIM3_CH4/TIM8_CH3N/TIM1_CH3N", 28 PB2 (io) "PB2/BOOT1", 29 PB10 (io) "PB10/I2C2_SCL/USART3_TX/TIM2_CH3", 30 PB11 (io) "PB11/I2C2_SDA/USART3_RX/TIM2_CH4", 33 PB12 (io) "PB12/SPI2_NSS/I2S2_WS/I2C2_SMBA/USART3_CK/TIM1_BKIN", 34 PB13 (io) "PB13/SPI2_SCK/I2S2_CK/USART3_CTS/TIM1_CH1N", 35 PB14 (io) "PB14/SPI2_MISO/TIM1_CH2N/USART3_RTS/TIM12_CH1", 36 PB15 (io) "PB15/SPI2_MOSI/I2S2_SD/TIM1_CH3N/TIM12_CH2", 37 PC6 (io) "PC6/I2S2_MCK/TIM8_CH1/SDIO_D6/TIM3_CH1", 38 PC7 (io) "PC7/I2S3_MCK/TIM8_CH2/SDIO_D7/TIM3_CH2", 39 PC8 (io) "PC8/TIM8_CH3/SDIO_D0/TIM3_CH3", 40 PC9 (io) "PC9/TIM8_CH4/SDIO_D1/TIM3_CH4", 41 PA8 (io) "PA8/USART1_CK/TIM1_CH1/MCO", 42 PA9 (io) "PA9/USART1_TX/TIM1_CH2", 43 PA10 (io) "PA10/USART1_RX/TIM1_CH3", 44 PA11 (io) "PA11/USART1_CTS/USBDM/CAN_RX/TIM1_CH4", 45 PA12 (io) "PA12/USART1_RTS/USBDP/CAN_TX/TIM1_ETR", 46 PA13 (io) "PA13/JTMS-SWDIO", 49 PA14 (io) "PA14/JTCK-SWCLK", 50 PA15 (io) "PA15/JTDI/SPI3_NSS/I2S3_WS/TIM2_CH1_ETR/SPI1_NSS", 51 PC10 (io) "PC10/UART4_TX/SDIO_D2/USART3_TX", 52 PC11 (io) "PC11/UART4_RX/SDIO_D3/USART3_RX", 53 PC12 (io) "PC12/UART5_TX/SDIO_CK/USART3_CK", 54 PD2 (io) "PD2/TIM3_ETR/UART5_RX/SDIO_CMD", 55 PB3 (io) "PB3/JTDO/SPI3_SCK/I2S3_CK/TRACESWO/TIM2_CH2/SPI1_SCK", 56 PB4 (io) "PB4/NJTRST/SPI3_MISO/TIM3_CH1/SPI1_MISO", 57 PB5 (io) "PB5/I2C1_SMBA/SPI3_MOSI/I2S3_SD/TIM3_CH2/SPI1_MOSI", 58 PB6 (io) "PB6/I2C1_SCL/TIM4_CH1/USART1_TX", 59 PB7 (io) "PB7/I2C1_SDA/TIM4_CH2/USART1_RX", 60 BOOT0 (in), 61 PB8 (io) "PB8/TIM4_CH3/SDIO_D4/TIM10_CH1/I2C1_SCL/CAN_RX", 62 PB9 (io) "PB9/TIM4_CH4/SDIO_D5/TIM11_CH1/I2C1_SDA/CAN_TX"
part B pins: 1 VBAT (power), 12 VSSA (power), 13 VDDA (power), 18 VSS_4 (power), 19 VDD_4 (power), 31 VSS_1 (power), 32 VDD_1 (power), 47 VSS_2 (power), 48 VDD_2 (power), 63 VSS_3 (power), 64 VDD_3 (power)

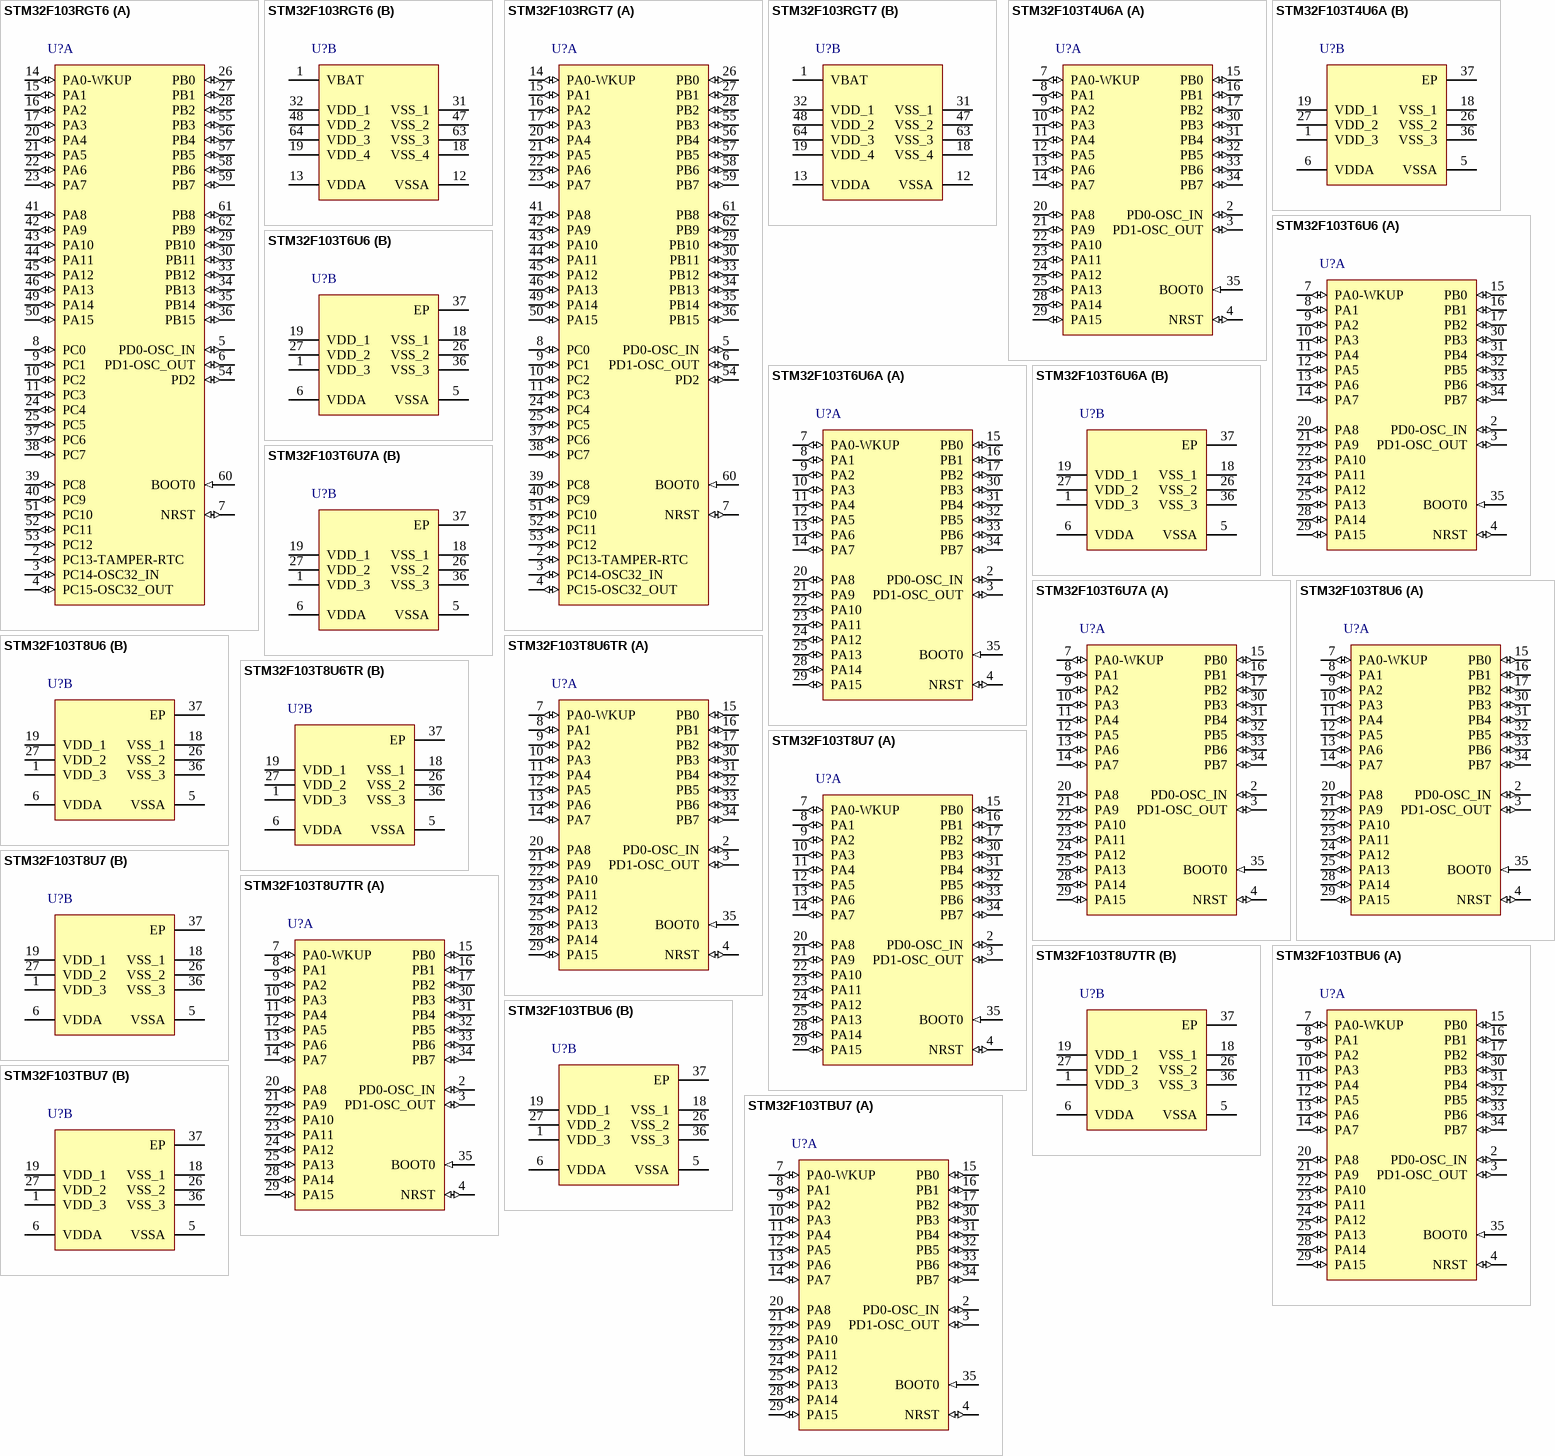
[diagram p23: symbols STM32F103RGT6 to STM32F103TBU7]